# Altium schematic symbol library SCH-45852_C_Library.SchLib: 175 symbols
Pins are listed as number, name and electrical type; pins without a type are passive.

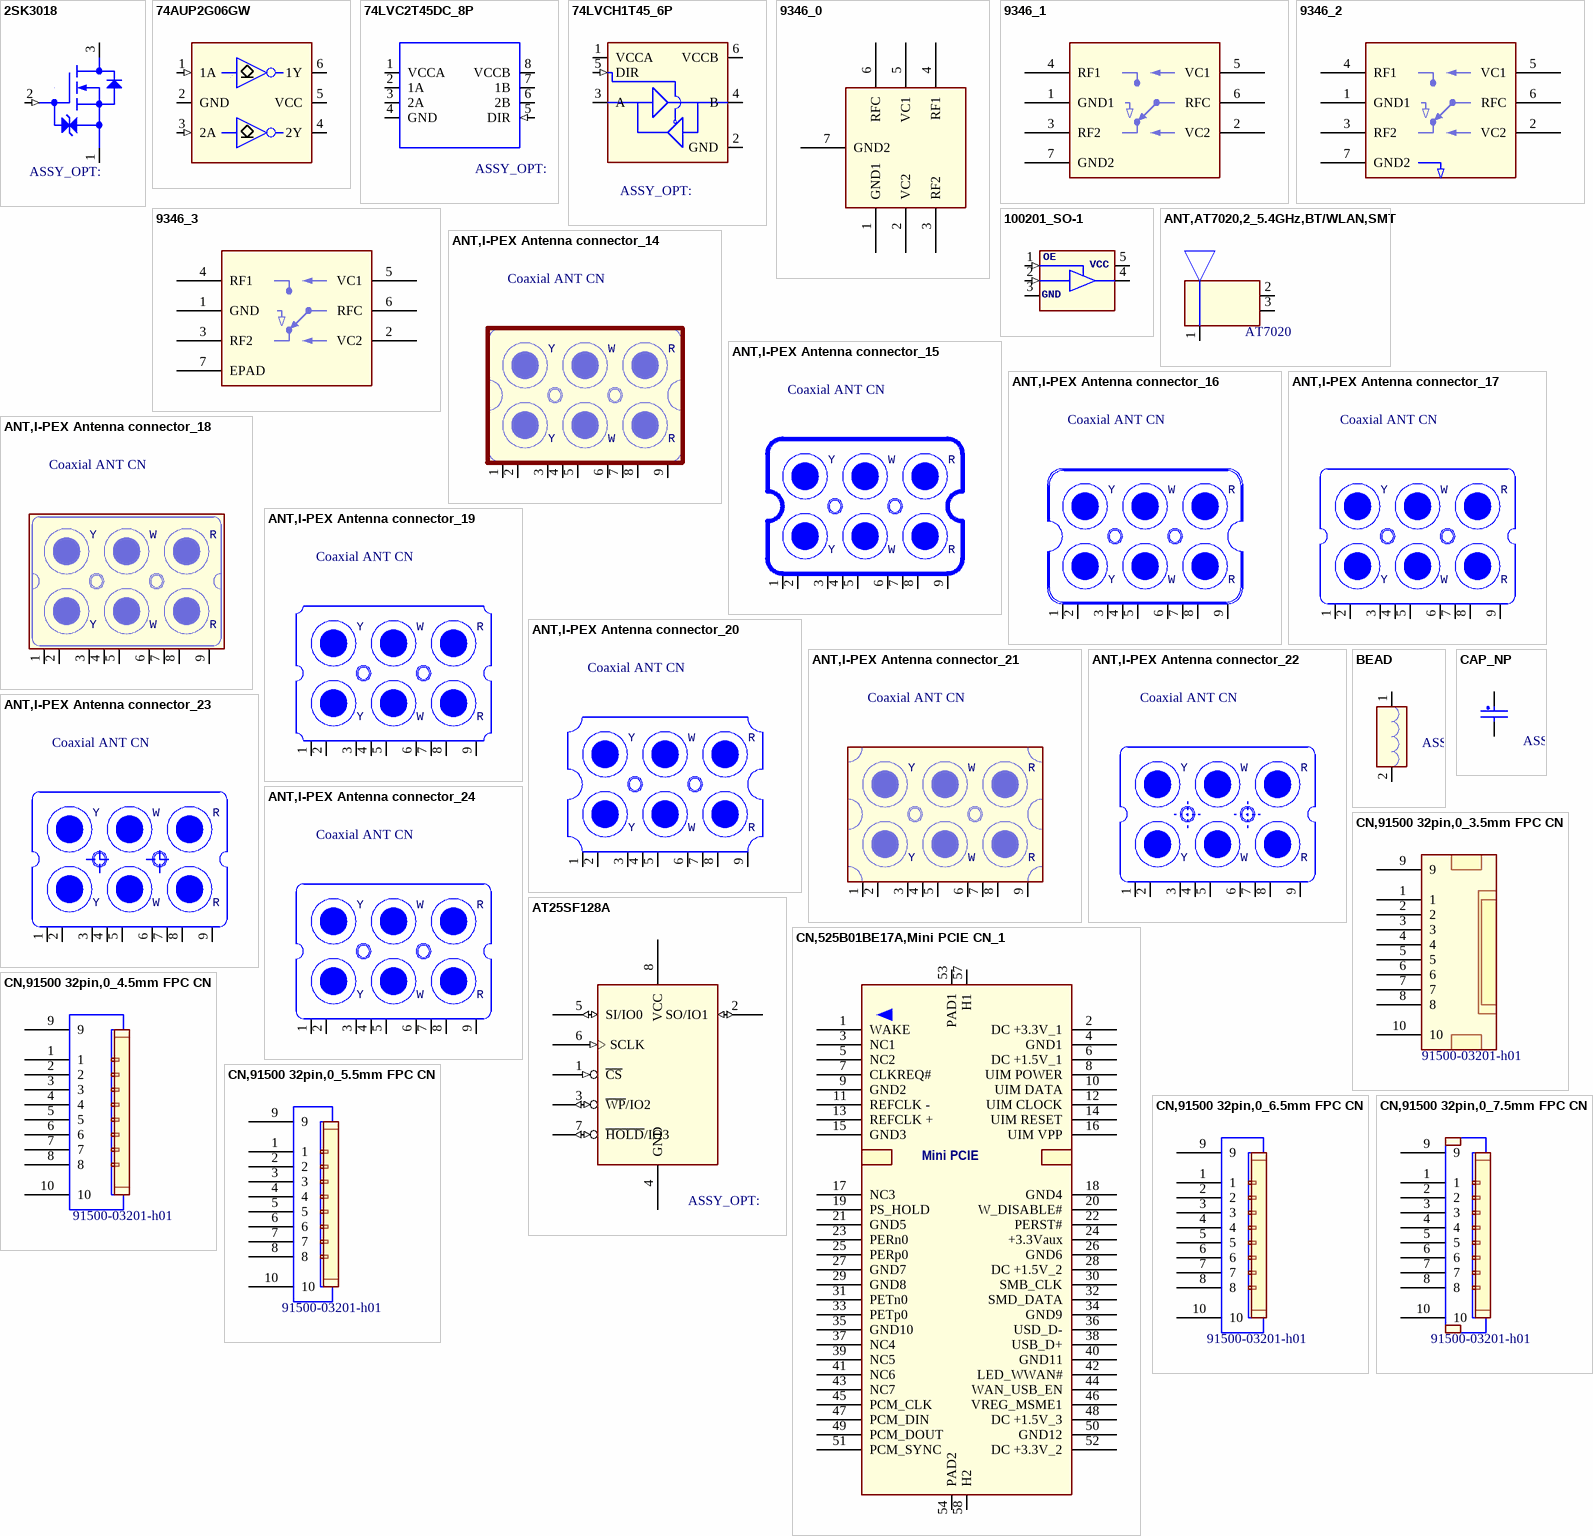
[diagram p0: symbols 2SK3018 to CN,91500 32pin,0_7.5mm FPC CN]

## 2SK3018
designator Q?
CLASS: IC
pins: 1 SOURCE, 2 GATE (in), 3 DRAIN

## 74AUP2G06GW
designator U?
CLASS: IC
footprint SOT363
pins: 1 1A (in), 2 GND (power), 3 2A (in), 4 2Y (oc), 5 VCC (power), 6 1Y (oc)

## 74LVC2T45DC_8P
designator U?
CLASS: IC
pins: 1 VCCA (power), 2 1A (io), 3 2A (io), 4 GND (power), 5 DIR (in), 6 2B (io), 7 1B (io), 8 VCCB (power)

## 74LVCH1T45_6P
designator U?
CLASS: IC
pins: 1 VCCA (power), 2 GND (power), 3 A (io), 4 B (io), 5 DIR (in), 6 VCCB (power)

## 9346_0
designator U?
pins: 1 GND1, 2 VC2, 3 RF2, 4 RF1, 5 VC1, 6 RFC, 7 GND2

## 9346_1
designator U?
pins: 1 GND1, 2 VC2, 3 RF2, 4 RF1, 5 VC1, 6 RFC, 7 GND2

## 9346_2
designator U?
pins: 1 GND1, 2 VC2, 3 RF2, 4 RF1, 5 VC1, 6 RFC, 7 GND2

## 9346_3
designator U?
pins: 1 GND, 2 VC2, 3 RF2, 4 RF1, 5 VC1, 6 RFC, 7 EPAD

## 100201_SO-1
designator U?
pins: 1 OE (in), 2 A (in), 3 GND (power), 4 Y (hiz), 5 VCC (power)

## ANT,AT7020,2_5.4GHz,BT/WLAN,SMT
designator A?, comment AT7020
ANT,AT7020,2.4GHz Multilayer Chip Antenna,BT/WLAN; VPN: AT7020-E3R0HBAT/CF; SPN: 99-26-130011; Vendor: ACX
footprint AT7020
pins: 1 FEED, 2 GND1, 3 GND2

## ANT,I-PEX Antenna connector_14
designator J?, comment Coaxial ANT CN
ANT,I-PEX Antenna connector; VPN: 20279-001 E-01; Vendor: I-PEX
footprint 20279-001
pins: 1, 2, 3, 4, 5, 6, 7, 8, 9
text: Y; W; R

## ANT,I-PEX Antenna connector_15
designator J?, comment Coaxial ANT CN
ANT,I-PEX Antenna connector; VPN: 20279-001 E-01; Vendor: I-PEX
footprint 20279-001
pins: 1, 2, 3, 4, 5, 6, 7, 8, 9
text: Y; W; R

## ANT,I-PEX Antenna connector_16
designator J?, comment Coaxial ANT CN
ANT,I-PEX Antenna connector; VPN: 20279-001 E-01; Vendor: I-PEX
footprint 20279-001
pins: 1, 2, 3, 4, 5, 6, 7, 8, 9
text: Y; W; R

## ANT,I-PEX Antenna connector_17
designator J?, comment Coaxial ANT CN
ANT,I-PEX Antenna connector; VPN: 20279-001 E-01; Vendor: I-PEX
footprint 20279-001
pins: 1, 2, 3, 4, 5, 6, 7, 8, 9
text: Y; W; R

## ANT,I-PEX Antenna connector_18
designator J?, comment Coaxial ANT CN
ANT,I-PEX Antenna connector; VPN: 20279-001 E-01; Vendor: I-PEX
footprint 20279-001
pins: 1, 2, 3, 4, 5, 6, 7, 8, 9
text: Y; W; R

## ANT,I-PEX Antenna connector_19
designator J?, comment Coaxial ANT CN
ANT,I-PEX Antenna connector; VPN: 20279-001 E-01; Vendor: I-PEX
footprint 20279-001
pins: 1, 2, 3, 4, 5, 6, 7, 8, 9
text: Y; W; R

## ANT,I-PEX Antenna connector_20
designator J?, comment Coaxial ANT CN
ANT,I-PEX Antenna connector; VPN: 20279-001 E-01; Vendor: I-PEX
footprint 20279-001
pins: 1, 2, 3, 4, 5, 6, 7, 8, 9
text: Y; W; R

## ANT,I-PEX Antenna connector_21
designator J?, comment Coaxial ANT CN
ANT,I-PEX Antenna connector; VPN: 20279-001 E-01; Vendor: I-PEX
footprint 20279-001
pins: 1, 2, 3, 4, 5, 6, 7, 8, 9
text: Y; W; R

## ANT,I-PEX Antenna connector_22
designator J?, comment Coaxial ANT CN
ANT,I-PEX Antenna connector; VPN: 20279-001 E-01; Vendor: I-PEX
footprint 20279-001
pins: 1, 2, 3, 4, 5, 6, 7, 8, 9
text: Y; W; R

## ANT,I-PEX Antenna connector_23
designator J?, comment Coaxial ANT CN
ANT,I-PEX Antenna connector; VPN: 20279-001 E-01; Vendor: I-PEX
footprint 20279-001
pins: 1, 2, 3, 4, 5, 6, 7, 8, 9
text: Y; W; R

## ANT,I-PEX Antenna connector_24
designator J?, comment Coaxial ANT CN
ANT,I-PEX Antenna connector; VPN: 20279-001 E-01; Vendor: I-PEX
footprint 20279-001
pins: 1, 2, 3, 4, 5, 6, 7, 8, 9
text: Y; W; R

## AT25SF128A
designator U?
CLASS: IC
pins: 1 ~{CS} (in), 2 SO/IO1 (io), 3 ~{WP}/IO2 (io), 4 GND (power), 5 SI/IO0 (io), 6 SCLK (in), 7 ~{HOLD}/IO3 (io), 8 VCC (power)

## BEAD
designator L?
CLASS: DISCRETE
pins: 1, 2

## CAP_NP
designator C?
CLASS: DISCRETE
pins: 1, 2

## CN,525B01BE17A,Mini PCIE CN_1
designator J?, comment Mini PCIE
CN,525B01BE17A,Mini PCIE,0.8mm Pitch,52Pin; Vendor: Concraft; VPN: 525B01BE17A
footprint 525B01BE17A
pins: 1 WAKE, 2 DC +3.3V_1, 3 NC1, 4 GND1, 5 NC2, 6 DC +1.5V_1, 7 CLKREQ#, 8 UIM POWER, 9 GND2, 10 UIM DATA, 11 REFCLK -, 12 UIM CLOCK, 13 REFCLK +, 14 UIM RESET, 15 GND3, 16 UIM VPP, 17 NC3, 18 GND4, 19 PS_HOLD, 20 W_DISABLE#, 21 GND5, 22 PERST#, 23 PERn0, 24 +3.3Vaux, 25 PERp0, 26 GND6, 27 GND7, 28 DC +1.5V_2, 29 GND8, 30 SMB_CLK, 31 PETn0, 32 SMD_DATA, 33 PETp0, 34 GND9, 35 GND10, 36 USD_D-, 37 NC4, 38 USB_D+, 39 NC5, 40 GND11, 41 NC6, 42 LED_WWAN#, 43 NC7, 44 WAN_USB_EN, 45 PCM_CLK, 46 VREG_MSME1, 47 PCM_DIN, 48 DC +1.5V_3, 49 PCM_DOUT, 50 GND12, 51 PCM_SYNC, 52 DC +3.3V_2, 53 PAD1, 54 PAD2, 57 H1, 58 H2

## CN,91500 32pin,0_3.5mm FPC CN
designator J?, comment 91500-03201-h01
CN,91500,0.5mm/32Pin FPC/FFC,; Vendor: Aces; VPN: 91500-03201-h01
footprint con32_0p5_91500-03201-h01
pins: 1, 2, 3, 4, 5, 6, 7, 8, 9, 10

## CN,91500 32pin,0_4.5mm FPC CN
designator J?, comment 91500-03201-h01
CN,91500,0.5mm/32Pin FPC/FFC,; Vendor: Aces; VPN: 91500-03201-h01
footprint con32_0p5_91500-03201-h01
pins: 1, 2, 3, 4, 5, 6, 7, 8, 9, 10

## CN,91500 32pin,0_5.5mm FPC CN
designator J?, comment 91500-03201-h01
CN,91500,0.5mm/32Pin FPC/FFC,; Vendor: Aces; VPN: 91500-03201-h01
footprint con32_0p5_91500-03201-h01
pins: 1, 2, 3, 4, 5, 6, 7, 8, 9, 10

## CN,91500 32pin,0_6.5mm FPC CN
designator J?, comment 91500-03201-h01
CN,91500,0.5mm/32Pin FPC/FFC,; Vendor: Aces; VPN: 91500-03201-h01
footprint con32_0p5_91500-03201-h01
pins: 1, 2, 3, 4, 5, 6, 7, 8, 9, 10

## CN,91500 32pin,0_7.5mm FPC CN
designator J?, comment 91500-03201-h01
CN,91500,0.5mm/32Pin FPC/FFC,; Vendor: Aces; VPN: 91500-03201-h01
footprint con32_0p5_91500-03201-h01
pins: 1, 2, 3, 4, 5, 6, 7, 8, 9, 10

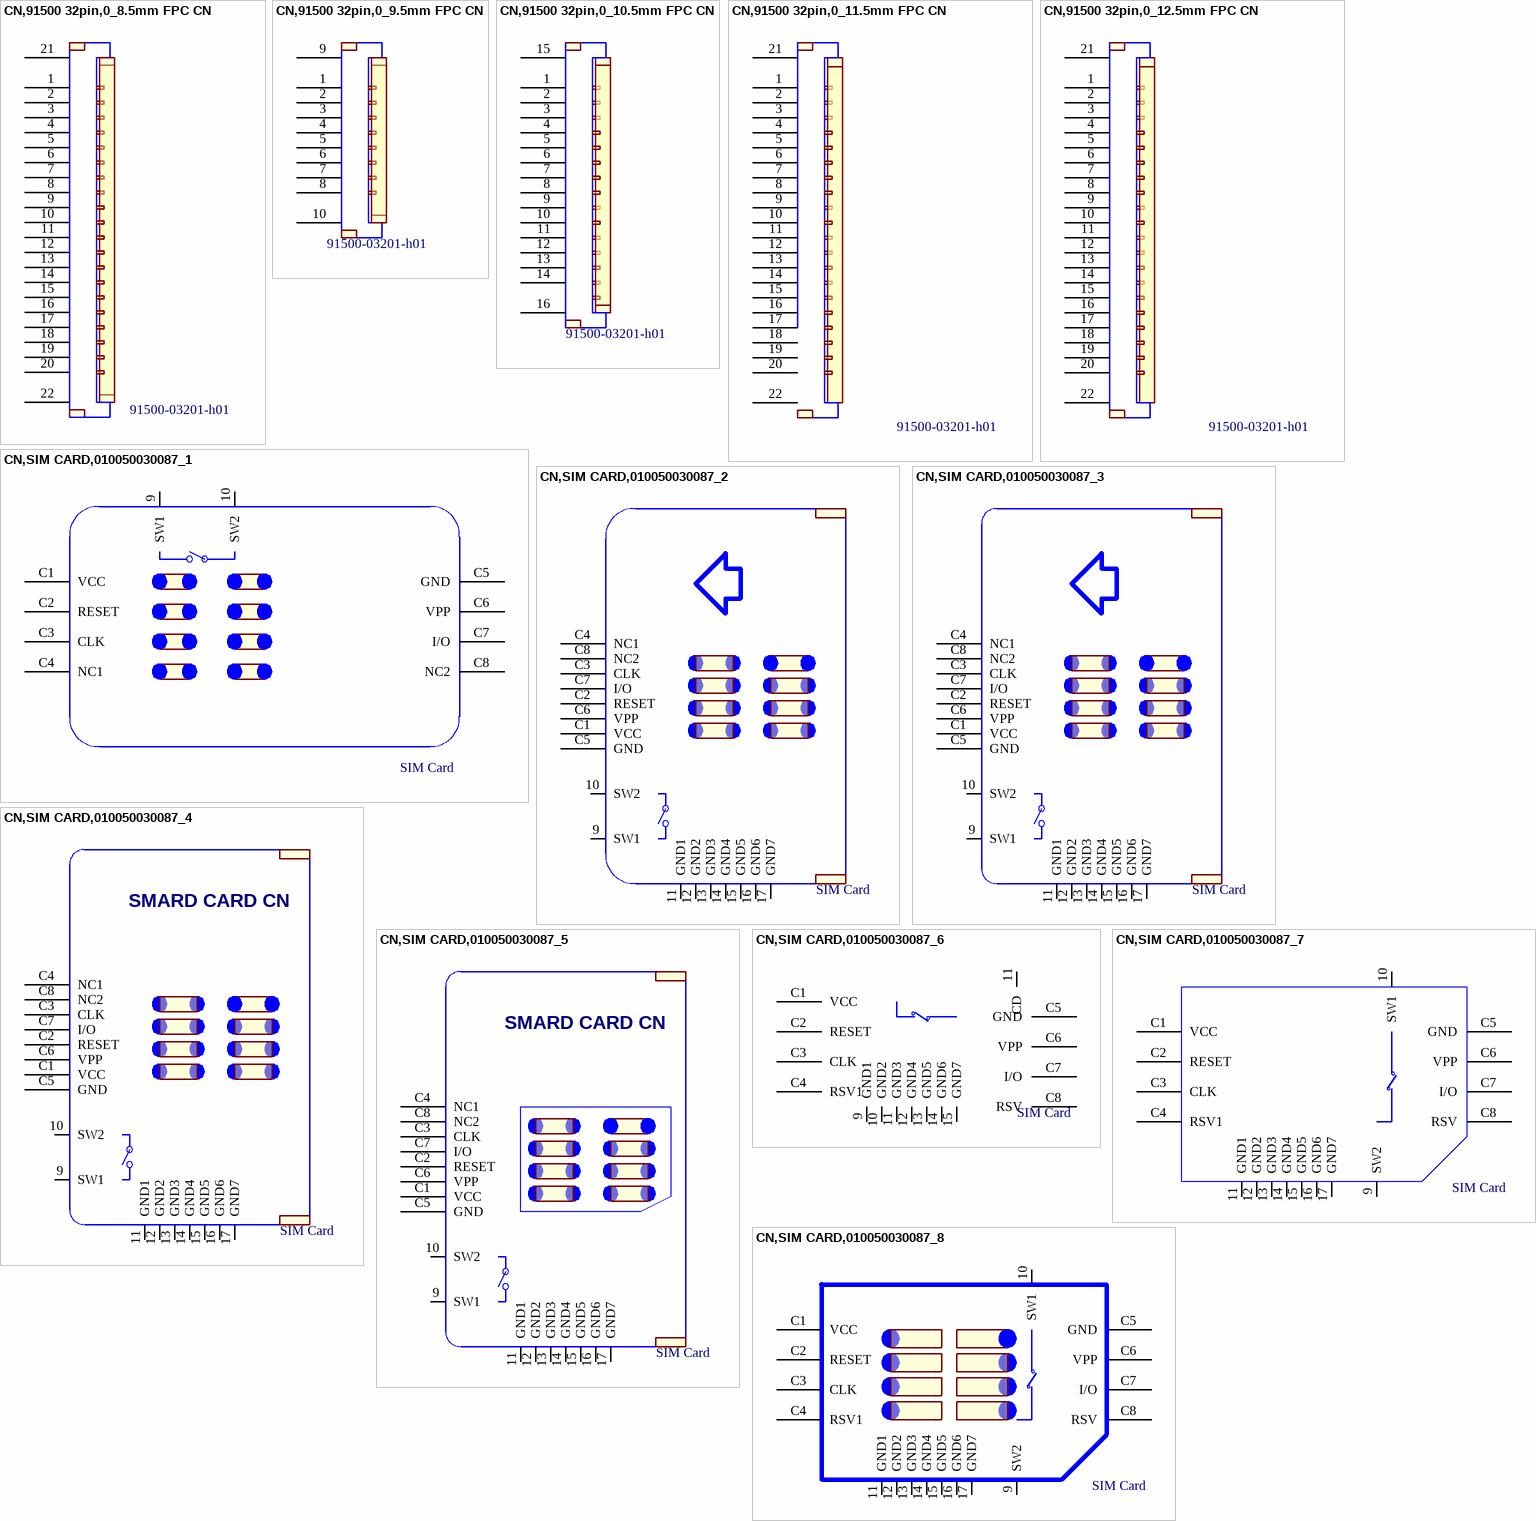
[diagram p1: symbols CN,91500 32pin,0_8.5mm FPC CN to CN,SIM CARD,010050030087_8]

## CN,91500 32pin,0_8.5mm FPC CN
designator J?, comment 91500-03201-h01
CN,91500,0.5mm/32Pin FPC/FFC,; Vendor: Aces; VPN: 91500-03201-h01
footprint con32_0p5_91500-03201-h01
pins: 1, 2, 3, 4, 5, 6, 7, 8, 9, 10, 11, 12, 13, 14, 15, 16, 17, 18, 19, 20, 21, 22

## CN,91500 32pin,0_9.5mm FPC CN
designator J?, comment 91500-03201-h01
CN,91500,0.5mm/32Pin FPC/FFC,; Vendor: Aces; VPN: 91500-03201-h01
footprint con32_0p5_91500-03201-h01
pins: 1, 2, 3, 4, 5, 6, 7, 8, 9, 10

## CN,91500 32pin,0_10.5mm FPC CN
designator J?, comment 91500-03201-h01
CN,91500,0.5mm/32Pin FPC/FFC,; Vendor: Aces; VPN: 91500-03201-h01
footprint con32_0p5_91500-03201-h01
pins: 1, 2, 3, 4, 5, 6, 7, 8, 9, 10, 11, 12, 13, 14, 15 M1, 16 M2

## CN,91500 32pin,0_11.5mm FPC CN
designator J?, comment 91500-03201-h01
CN,91500,0.5mm/32Pin FPC/FFC,; Vendor: Aces; VPN: 91500-03201-h01
footprint con32_0p5_91500-03201-h01
pins: 1, 2, 3, 4, 5, 6, 7, 8, 9, 10, 11, 12, 13, 14, 15 M1, 16 M2, 17, 18, 19, 20, 21, 22

## CN,91500 32pin,0_12.5mm FPC CN
designator J?, comment 91500-03201-h01
CN,91500,0.5mm/32Pin FPC/FFC,; Vendor: Aces; VPN: 91500-03201-h01
footprint con32_0p5_91500-03201-h01
pins: 1, 2, 3, 4, 5, 6, 7, 8, 9, 10, 11, 12, 13, 14, 15 M1, 16 M2, 17, 18, 19, 20, 21, 22

## CN,SIM CARD,010050030087_1
designator J?, comment SIM Card
CN,SIM CARD,010050030087,Sim Card Socket 6Pin With DET; VPN: 010050030087
footprint 010050030087
pins: 9 SW1, 10 SW2, C1 VCC, C2 RESET, C3 CLK, C4 NC1, C5 GND, C6 VPP, C7 I/O, C8 NC2

## CN,SIM CARD,010050030087_2
designator J?, comment SIM Card
CN,SIM CARD,010050030087,Sim Card Socket 6Pin With DET; VPN: 010050030087
footprint 010050030087
pins: 9 SW1, 10 SW2, 11 GND1, 12 GND2, 13 GND3, 14 GND4, 15 GND5, 16 GND6, 17 GND7, C1 VCC, C2 RESET, C3 CLK, C4 NC1, C5 GND, C6 VPP, C7 I/O, C8 NC2

## CN,SIM CARD,010050030087_3
designator J?, comment SIM Card
CN,SIM CARD,010050030087,Sim Card Socket 6Pin With DET; VPN: 010050030087
footprint 010050030087
pins: 9 SW1, 10 SW2, 11 GND1, 12 GND2, 13 GND3, 14 GND4, 15 GND5, 16 GND6, 17 GND7, C1 VCC, C2 RESET, C3 CLK, C4 NC1, C5 GND, C6 VPP, C7 I/O, C8 NC2

## CN,SIM CARD,010050030087_4
designator J?, comment SIM Card
CN,SIM CARD,010050030087,Sim Card Socket 6Pin With DET; VPN: 010050030087
footprint 010050030087
pins: 9 SW1, 10 SW2, 11 GND1, 12 GND2, 13 GND3, 14 GND4, 15 GND5, 16 GND6, 17 GND7, C1 VCC, C2 RESET, C3 CLK, C4 NC1, C5 GND, C6 VPP, C7 I/O, C8 NC2
text: SMARD CARD CN

## CN,SIM CARD,010050030087_5
designator J?, comment SIM Card
CN,SIM CARD,010050030087,Sim Card Socket 6Pin With DET; VPN: 010050030087
footprint 010050030087
pins: 9 SW1, 10 SW2, 11 GND1, 12 GND2, 13 GND3, 14 GND4, 15 GND5, 16 GND6, 17 GND7, C1 VCC, C2 RESET, C3 CLK, C4 NC1, C5 GND, C6 VPP, C7 I/O, C8 NC2
text: SMARD CARD CN

## CN,SIM CARD,010050030087_6
designator J?, comment SIM Card
CN,SIM CARD,010050030087,Sim Card Socket 6Pin With DET; VPN: 010050030087
footprint 010050030087
pins: 9 GND1, 10 GND2, 11 CD, 11 GND3, 12 GND4, 13 GND5, 14 GND6, 15 GND7, C1 VCC, C2 RESET, C3 CLK, C4 RSV1, C5 GND, C6 VPP, C7 I/O, C8 RSV

## CN,SIM CARD,010050030087_7
designator J?, comment SIM Card
CN,SIM CARD,010050030087,Sim Card Socket 6Pin With DET; VPN: 010050030087
footprint 010050030087
pins: 9 SW2, 10 SW1, 11 GND1, 12 GND2, 13 GND3, 14 GND4, 15 GND5, 16 GND6, 17 GND7, C1 VCC, C2 RESET, C3 CLK, C4 RSV1, C5 GND, C6 VPP, C7 I/O, C8 RSV

## CN,SIM CARD,010050030087_8
designator J?, comment SIM Card
CN,SIM CARD,010050030087,Sim Card Socket 6Pin With DET; VPN: 010050030087
footprint 010050030087
pins: 9 SW2, 10 SW1, 11 GND1, 12 GND2, 13 GND3, 14 GND4, 15 GND5, 16 GND6, 17 GND7, C1 VCC, C2 RESET, C3 CLK, C4 RSV1, C5 GND, C6 VPP, C7 I/O, C8 RSV

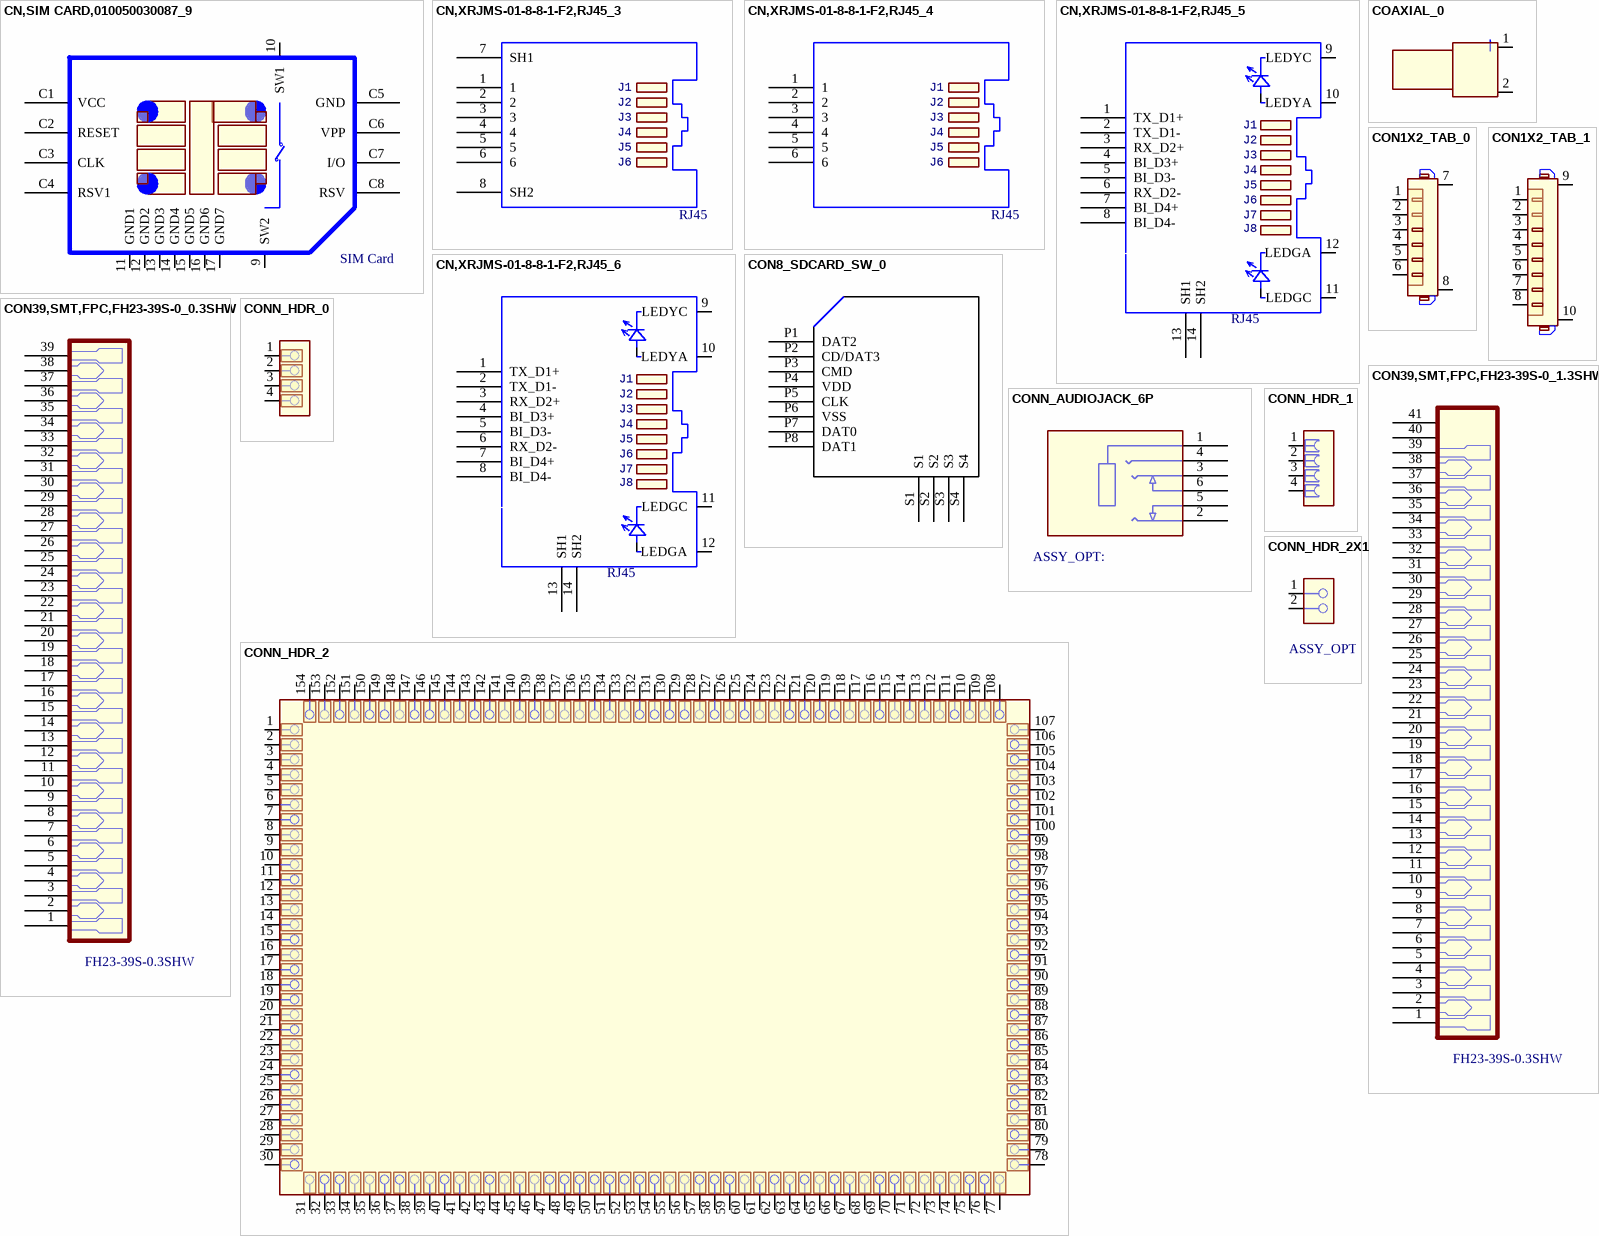
[diagram p2: symbols CN,SIM CARD,010050030087_9 to CONN_HDR_2X1]

## CN,SIM CARD,010050030087_9
designator J?, comment SIM Card
CN,SIM CARD,010050030087,Sim Card Socket 6Pin With DET; VPN: 010050030087
footprint 010050030087
pins: 9 SW2, 10 SW1, 11 GND1, 12 GND2, 13 GND3, 14 GND4, 15 GND5, 16 GND6, 17 GND7, C1 VCC, C2 RESET, C3 CLK, C4 RSV1, C5 GND, C6 VPP, C7 I/O, C8 RSV

## CN,XRJMS-01-8-8-1-F2,RJ45_3
designator J?, comment RJ45
CN,XRJMS-01-8-8-1-F2,RJ45 with Green/Yellow LED; Vendor: XMULTIPLE; CLASS: IO; VPN: XRJMS-01-8-8-1-F2
footprint XRJMS-01-8-8-1-F2
pins: 1, 2, 3, 4, 5, 6, 7 SH1, 8 SH2
text: J1; J2; J3; J4; J5; J6

## CN,XRJMS-01-8-8-1-F2,RJ45_4
designator J?, comment RJ45
CN,XRJMS-01-8-8-1-F2,RJ45 with Green/Yellow LED; Vendor: XMULTIPLE; CLASS: IO; VPN: XRJMS-01-8-8-1-F2
footprint XRJMS-01-8-8-1-F2
pins: 1, 2, 3, 4, 5, 6
text: J1; J2; J3; J4; J5; J6

## CN,XRJMS-01-8-8-1-F2,RJ45_5
designator J?, comment RJ45
CN,XRJMS-01-8-8-1-F2,RJ45 with Green/Yellow LED; Vendor: XMULTIPLE; CLASS: IO; VPN: XRJMS-01-8-8-1-F2
footprint XRJMS-01-8-8-1-F2
pins: 1 TX_D1+, 2 TX_D1-, 3 RX_D2+, 4 BI_D3+, 5 BI_D3-, 6 RX_D2-, 7 BI_D4+, 8 BI_D4-, 9 LEDYC, 10 LEDYA, 11 LEDGC, 12 LEDGA, 13 SH1, 14 SH2
text: J1; J2; J3; J4; J5; J6; J7; J8

## CN,XRJMS-01-8-8-1-F2,RJ45_6
designator J?, comment RJ45
CN,XRJMS-01-8-8-1-F2,RJ45 with Green/Yellow LED; Vendor: XMULTIPLE; CLASS: IO; VPN: XRJMS-01-8-8-1-F2
footprint XRJMS-01-8-8-1-F2
pins: 1 TX_D1+, 2 TX_D1-, 3 RX_D2+, 4 BI_D3+, 5 BI_D3-, 6 RX_D2-, 7 BI_D4+, 8 BI_D4-, 9 LEDYC, 10 LEDYA, 11 LEDGC, 12 LEDGA, 13 SH1, 14 SH2
text: J1; J2; J3; J4; J5; J6; J7; J8

## COAXIAL_0
designator J?
pins: 1 IN, 2 GND (power)

## CON1X2_TAB_0
designator J?
CLASS: IO
footprint W12503-S160501A
pins: 1, 2, 3, 4, 5, 6, 7, 8

## CON1X2_TAB_1
designator J?
CLASS: IO
footprint W12503-S160501A
pins: 1, 2, 3, 4, 5, 6, 7, 8, 9, 10

## CON8_SDCARD_SW_0
designator J?
CLASS: IO
pins: P1 DAT2, P2 CD/DAT3, P3 CMD, P4 VDD (power), P5 CLK, P6 VSS (power), P7 DAT0, P8 DAT1, S1, S2, S3, S4

## CON39,SMT,FPC,FH23-39S-0_0.3SHW
designator J?, comment FH23-39S-0.3SHW
CON39,FH23-39S-0.3SHW,0.3mm/39Pin FPC,Bottom contact; SPN: 99X30-210011; Vendor: Hirose; VPN: FH23-39S-0.3SHW
footprint FH23-39SH
pins: 1, 2, 3, 4, 5, 6, 7, 8, 9, 10, 11, 12, 13, 14, 15, 16, 17, 18, 19, 20, 21, 22, 23, 24, 25, 26, 27, 28, 29, 30, 31, 32, 33, 34, 35, 36, 37, 38, 39

## CON39,SMT,FPC,FH23-39S-0_1.3SHW
designator J?, comment FH23-39S-0.3SHW
CON39,FH23-39S-0.3SHW,0.3mm/39Pin FPC,Bottom contact; Vendor: Hirose; SPN: 99X30-210011; VPN: FH23-39S-0.3SHW
footprint FH23-39SH
pins: 1, 2, 3, 4, 5, 6, 7, 8, 9, 10, 11, 12, 13, 14, 15, 16, 17, 18, 19, 20, 21, 22, 23, 24, 25, 26, 27, 28, 29, 30, 31, 32, 33, 34, 35, 36, 37, 38, 39, 40, 41

## CONN_AUDIOJACK_6P
designator J?
CLASS: IO
pins: 1, 2, 3, 4, 5, 6

## CONN_HDR_0
designator J?
CLASS: IO
pins: 1, 2, 3, 4

## CONN_HDR_1
designator J?
CLASS: IO
pins: 1, 2, 3, 4

## CONN_HDR_2
designator J?
CLASS: IO
pins: 1, 2, 3, 4, 5, 6, 7, 8, 9, 10, 11, 12, 13, 14, 15, 16, 17, 18, 19, 20, 21, 22, 23, 24, 25, 26, 27, 28, 29, 30, 31, 32, 33, 34, 35, 36, 37, 38, 39, 40, 41, 42, 43, 44, 45, 46, 47, 48, 49, 50, 51, 52, 53, 54, 55, 56, 57, 58, 59, 60, 61, 62, 63, 64, 65, 66, 67, 68, 69, 70, 71, 72, 73, 74, 75, 76, 77, 78, 79, 80, 81, 82, 83, 84, 85, 86, 87, 88, 89, 90, 91, 92, 93, 94, 95, 96, 97, 98, 99, 100, 101, 102, 103, 104, 105, 106, 107, 108, 109, 110, 111, 112, 113, 114, 115, 116, 117, 118, 119, 120, 121, 122, 123, 124, 125, 126, 127, 128, 129, 130, 131, 132, 133, 134, 135, 136, 137, 138, 139, 140, 141, 142, 143, 144, 145, 146, 147, 148, 149, 150, 151, 152, 153, 154

## CONN_HDR_2X1
designator J?
CLASS: IO
pins: 1, 2

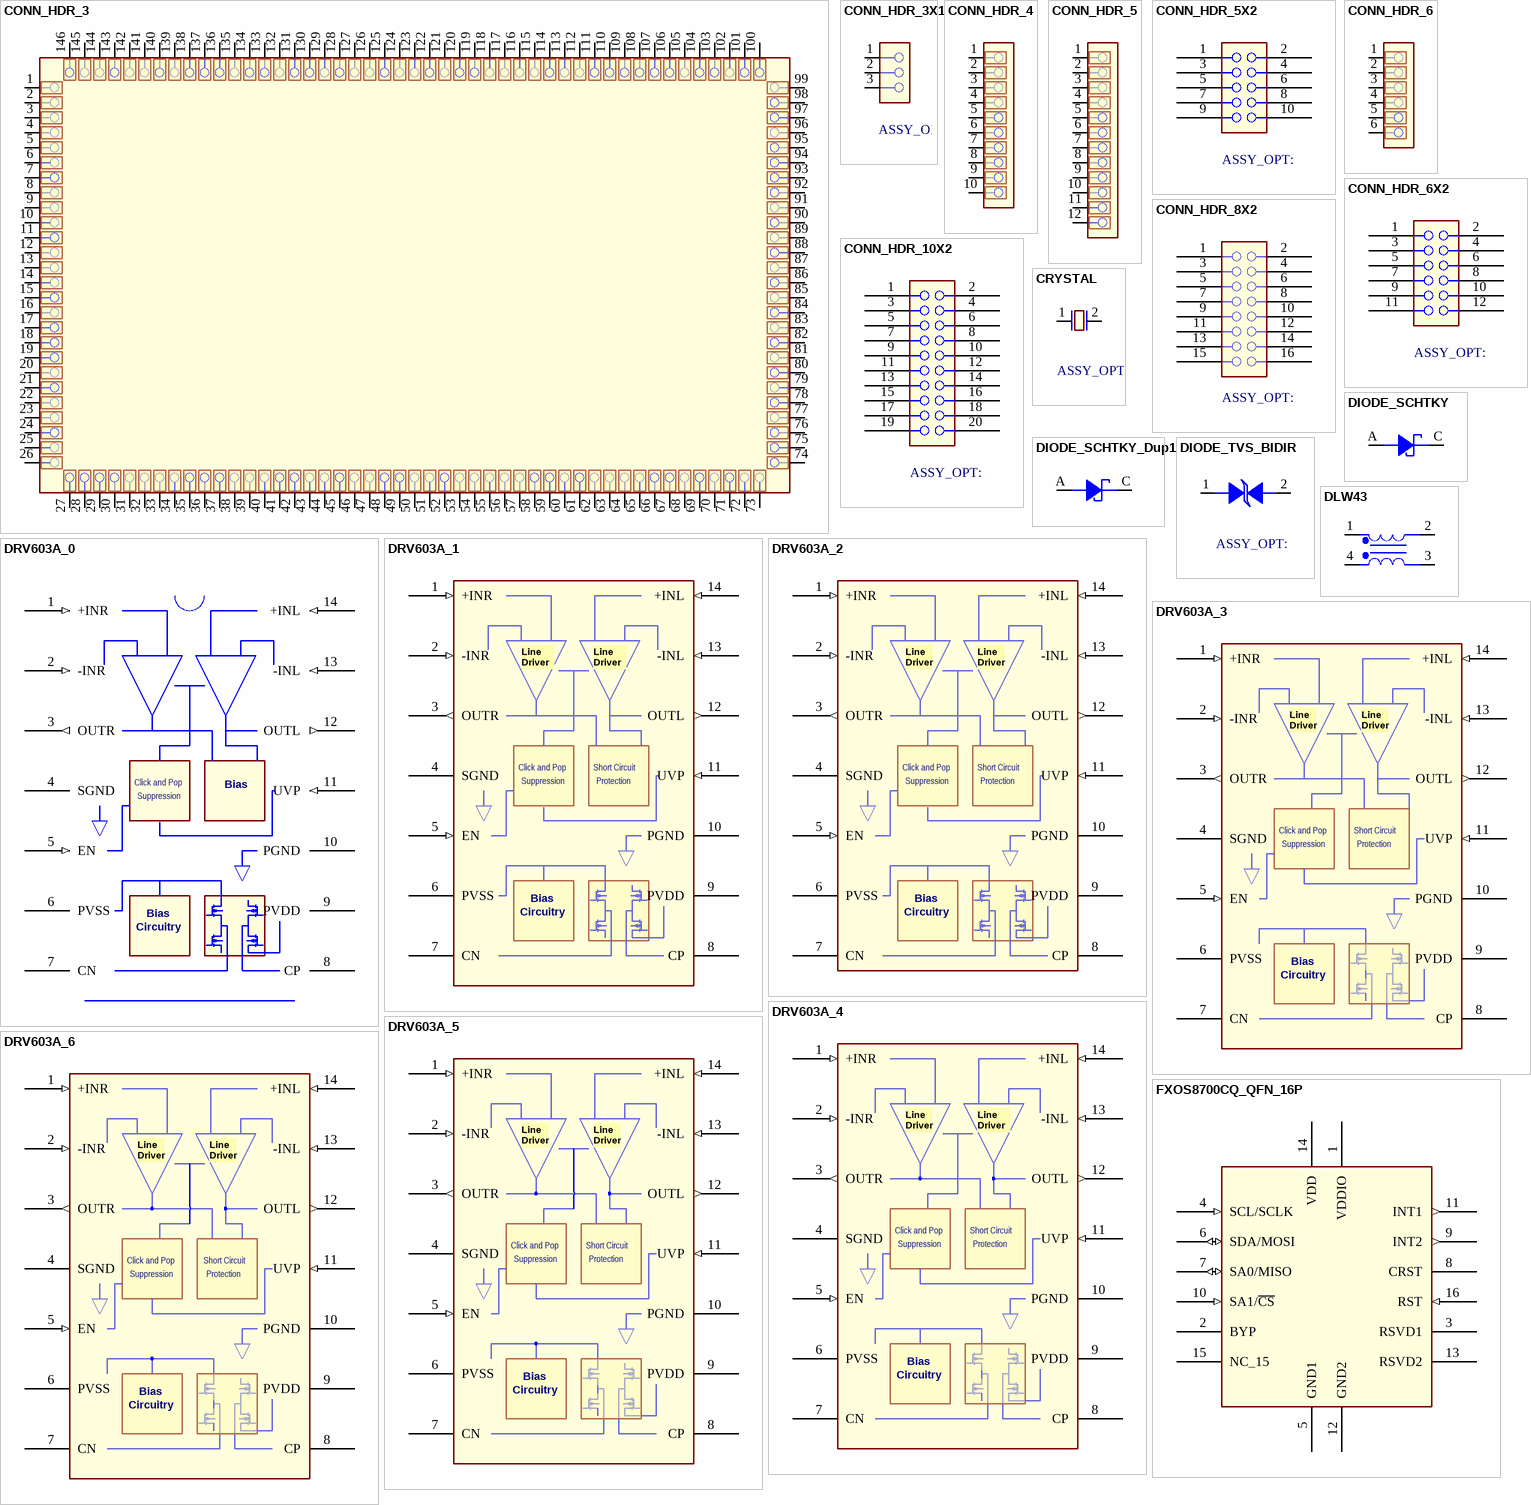
[diagram p3: symbols CONN_HDR_3 to FXOS8700CQ_QFN_16P]

## CONN_HDR_3
designator J?
CLASS: IO
pins: 1, 2, 3, 4, 5, 6, 7, 8, 9, 10, 11, 12, 13, 14, 15, 16, 17, 18, 19, 20, 21, 22, 23, 24, 25, 26, 27, 28, 29, 30, 31, 32, 33, 34, 35, 36, 37, 38, 39, 40, 41, 42, 43, 44, 45, 46, 47, 48, 49, 50, 51, 52, 53, 54, 55, 56, 57, 58, 59, 60, 61, 62, 63, 64, 65, 66, 67, 68, 69, 70, 71, 72, 73, 74, 75, 76, 77, 78, 79, 80, 81, 82, 83, 84, 85, 86, 87, 88, 89, 90, 91, 92, 93, 94, 95, 96, 97, 98, 99, 100, 101, 102, 103, 104, 105, 106, 107, 108, 109, 110, 111, 112, 113, 114, 115, 116, 117, 118, 119, 120, 121, 122, 123, 124, 125, 126, 127, 128, 129, 130, 131, 132, 133, 134, 135, 136, 137, 138, 139, 140, 141, 142, 143, 144, 145, 146

## CONN_HDR_3X1
designator J?
CLASS: IO
pins: 1, 2, 3

## CONN_HDR_4
designator J?
CLASS: IO
pins: 1, 2, 3, 4, 5, 6, 7, 8, 9, 10

## CONN_HDR_5
designator J?
CLASS: IO
pins: 1, 2, 3, 4, 5, 6, 7, 8, 9, 10, 11, 12

## CONN_HDR_5X2
designator J?
CLASS: IO
pins: 1 A1, 2 B1, 3 A2, 4 B2, 5 A3, 6 B3, 7 A4, 8 B4, 9 A5, 10 B5

## CONN_HDR_6
designator J?
CLASS: IO
pins: 1, 2, 3, 4, 5, 6

## CONN_HDR_6X2
designator J?
CLASS: IO
pins: 1 A1, 2 B1, 3 A2, 4 B2, 5 A3, 6 B3, 7 A4, 8 B4, 9 A5, 10 B5, 11 A6, 12 B6

## CONN_HDR_8X2
designator J?
CLASS: IO
pins: 1 A1, 2 B1, 3 A2, 4 B2, 5 A3, 6 B3, 7 A4, 8 B4, 9 A5, 10 B5, 11 A6, 12 B6, 13 A7, 14 B7, 15 A8, 16 B8

## CONN_HDR_10X2
designator J?
CLASS: IO
pins: 1, 2, 3, 4, 5, 6, 7, 8, 9, 10, 11, 12, 13, 14, 15, 16, 17, 18, 19, 20

## CRYSTAL
designator QZ?
CLASS: IC
pins: 1, 2

## DIODE_SCHTKY
designator D?
CLASS: IC
pins: A, C

## DIODE_SCHTKY_Dup1
designator D?
CLASS: IC
pins: A, C

## DIODE_TVS_BIDIR
designator D?
CLASS: IC
pins: 1 A1, 2 A2

## DLW43
designator L?
CLASS: DISCRETE
pins: 1, 2, 3, 4

## DRV603A_0
designator U?
pins: 1 +INR (in), 2 -INR (in), 3 OUTR (out), 4 SGND (power), 5 EN (in), 6 PVSS (power), 7 CN, 8 CP, 9 PVDD (power), 10 PGND (power), 11 UVP (in), 12 OUTL (out), 13 -INL (in), 14 +INL (in)
text: Click and Pop; Bias; Suppression; Circuitry

## DRV603A_1
designator U?
pins: 1 +INR (in), 2 -INR (in), 3 OUTR (out), 4 SGND (power), 5 EN (in), 6 PVSS (power), 7 CN, 8 CP, 9 PVDD (power), 10 PGND (power), 11 UVP (in), 12 OUTL (out), 13 -INL (in), 14 +INL (in)
text: Line / Driver; Click and Pop; Short Circuit; Suppression; Protection; Bias; Circuitry

## DRV603A_2
designator U?
pins: 1 +INR (in), 2 -INR (in), 3 OUTR (out), 4 SGND (power), 5 EN (in), 6 PVSS (power), 7 CN, 8 CP, 9 PVDD (power), 10 PGND (power), 11 UVP (in), 12 OUTL (out), 13 -INL (in), 14 +INL (in)
text: Line / Driver; Click and Pop; Short Circuit; Suppression; Protection; Bias; Circuitry

## DRV603A_3
designator U?
pins: 1 +INR (in), 2 -INR (in), 3 OUTR (out), 4 SGND (power), 5 EN (in), 6 PVSS (power), 7 CN, 8 CP, 9 PVDD (power), 10 PGND (power), 11 UVP (in), 12 OUTL (out), 13 -INL (in), 14 +INL (in)
text: Line / Driver; Click and Pop; Short Circuit; Suppression; Protection; Bias; Circuitry

## DRV603A_4
designator U?
pins: 1 +INR (in), 2 -INR (in), 3 OUTR (out), 4 SGND (power), 5 EN (in), 6 PVSS (power), 7 CN, 8 CP, 9 PVDD (power), 10 PGND (power), 11 UVP (in), 12 OUTL (out), 13 -INL (in), 14 +INL (in)
text: Line / Driver; Click and Pop; Short Circuit; Suppression; Protection; Bias; Circuitry

## DRV603A_5
designator U?
pins: 1 +INR (in), 2 -INR (in), 3 OUTR (out), 4 SGND (power), 5 EN (in), 6 PVSS (power), 7 CN, 8 CP, 9 PVDD (power), 10 PGND (power), 11 UVP (in), 12 OUTL (out), 13 -INL (in), 14 +INL (in)
text: Line / Driver; Click and Pop; Short Circuit; Suppression; Protection; Bias; Circuitry

## DRV603A_6
designator U?
pins: 1 +INR (in), 2 -INR (in), 3 OUTR (out), 4 SGND (power), 5 EN (in), 6 PVSS (power), 7 CN, 8 CP, 9 PVDD (power), 10 PGND (power), 11 UVP (in), 12 OUTL (out), 13 -INL (in), 14 +INL (in)
text: Line / Driver; Click and Pop; Short Circuit; Suppression; Protection; Bias; Circuitry

## FXOS8700CQ_QFN_16P
designator U?
CLASS: IC
pins: 1 VDDIO (power), 2 BYP, 3 RSVD1, 4 SCL/SCLK (in), 5 GND1 (power), 6 SDA/MOSI (io), 7 SA0/MISO (io), 8 CRST, 9 INT2 (out), 10 SA1/~{CS} (in), 11 INT1 (out), 12 GND2 (power), 13 RSVD2, 14 VDD (power), 15 NC_15, 16 RST (in)

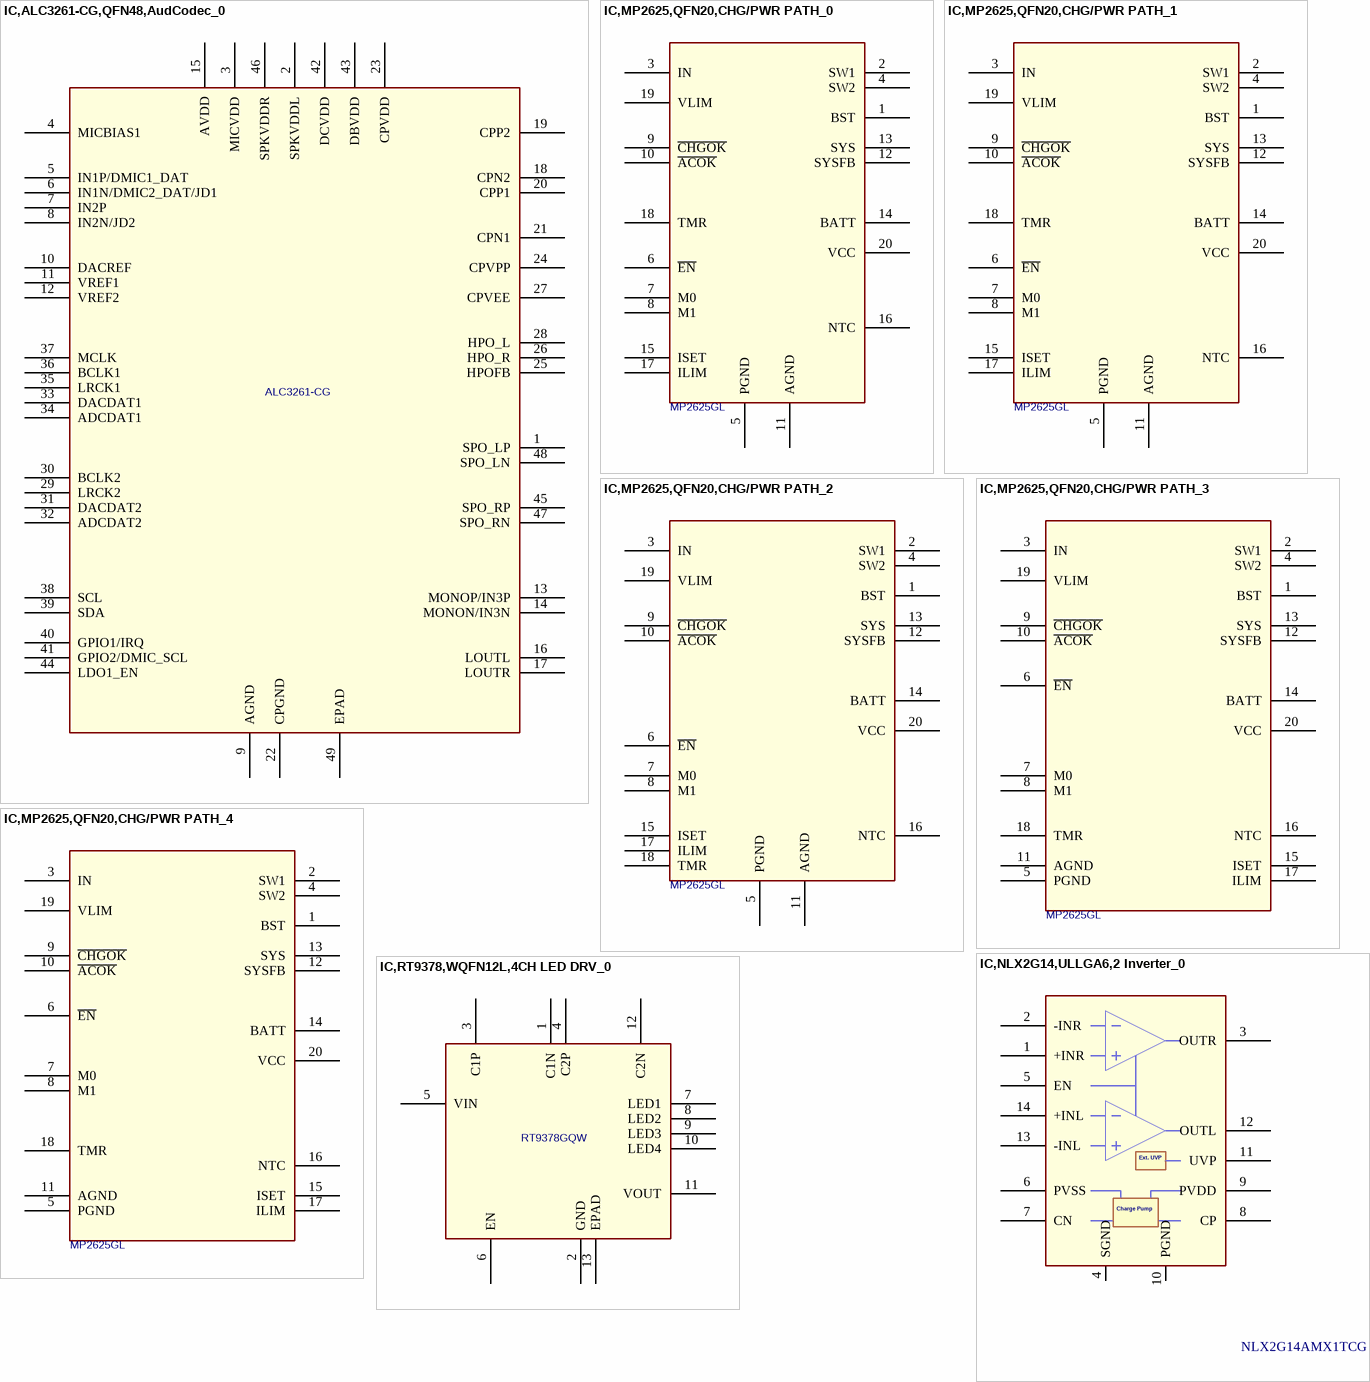
[diagram p4: symbols IC,ALC3261-CG,QFN48,AudCodec_0 to IC,RT9378,WQFN12L,4CH LED DRV_0]

## IC,ALC3261-CG,QFN48,AudCodec_0
designator U?, comment ALC3261-CG
Vendor: Realtek; VPN: ALC3261-CG
footprint QFN48
pins: 1 SPO_LP, 2 SPKVDDL, 3 MICVDD, 4 MICBIAS1, 5 IN1P/DMIC1_DAT, 6 IN1N/DMIC2_DAT/JD1, 7 IN2P, 8 IN2N/JD2, 9 AGND, 10 DACREF, 11 VREF1, 12 VREF2, 13 MONOP/IN3P, 14 MONON/IN3N, 15 AVDD, 16 LOUTL, 17 LOUTR, 18 CPN2, 19 CPP2, 20 CPP1, 21 CPN1, 22 CPGND, 23 CPVDD, 24 CPVPP, 25 HPOFB, 26 HPO_R, 27 CPVEE, 28 HPO_L, 29 LRCK2, 30 BCLK2, 31 DACDAT2, 32 ADCDAT2, 33 DACDAT1, 34 ADCDAT1, 35 LRCK1, 36 BCLK1, 37 MCLK, 38 SCL, 39 SDA, 40 GPIO1/IRQ, 41 GPIO2/DMIC_SCL, 42 DCVDD, 43 DBVDD, 44 LDO1_EN, 45 SPO_RP, 46 SPKVDDR, 47 SPO_RN, 48 SPO_LN, 49 EPAD

## IC,MP2625,QFN20,CHG/PWR PATH_0
designator U?, comment MP2625GL
IC,MP2625,QFN20,SINGLE CELL SWITCHING CHARGER WITH POWER PATH CONTROL; Vendor: MPS; VPN: MP2625GL
footprint qfn20_3x4mm
pins: 1 BST, 2 SW1, 3 IN, 4 SW2, 5 PGND, 6 ~{EN}, 7 M0, 8 M1, 9 ~{CHGOK}, 10 ~{ACOK}, 11 AGND, 12 SYSFB, 13 SYS, 14 BATT, 15 ISET, 16 NTC, 17 ILIM, 18 TMR, 19 VLIM, 20 VCC

## IC,MP2625,QFN20,CHG/PWR PATH_1
designator U?, comment MP2625GL
IC,MP2625,QFN20,SINGLE CELL SWITCHING CHARGER WITH POWER PATH CONTROL; Vendor: MPS; VPN: MP2625GL
footprint qfn20_3x4mm
pins: 1 BST, 2 SW1, 3 IN, 4 SW2, 5 PGND, 6 ~{EN}, 7 M0, 8 M1, 9 ~{CHGOK}, 10 ~{ACOK}, 11 AGND, 12 SYSFB, 13 SYS, 14 BATT, 15 ISET, 16 NTC, 17 ILIM, 18 TMR, 19 VLIM, 20 VCC

## IC,MP2625,QFN20,CHG/PWR PATH_2
designator U?, comment MP2625GL
IC,MP2625,QFN20,SINGLE CELL SWITCHING CHARGER WITH POWER PATH CONTROL; Vendor: MPS; VPN: MP2625GL
footprint qfn20_3x4mm
pins: 1 BST, 2 SW1, 3 IN, 4 SW2, 5 PGND, 6 ~{EN}, 7 M0, 8 M1, 9 ~{CHGOK}, 10 ~{ACOK}, 11 AGND, 12 SYSFB, 13 SYS, 14 BATT, 15 ISET, 16 NTC, 17 ILIM, 18 TMR, 19 VLIM, 20 VCC

## IC,MP2625,QFN20,CHG/PWR PATH_3
designator U?, comment MP2625GL
IC,MP2625,QFN20,SINGLE CELL SWITCHING CHARGER WITH POWER PATH CONTROL; Vendor: MPS; VPN: MP2625GL
footprint qfn20_3x4mm
pins: 1 BST, 2 SW1, 3 IN, 4 SW2, 5 PGND, 6 ~{EN}, 7 M0, 8 M1, 9 ~{CHGOK}, 10 ~{ACOK}, 11 AGND, 12 SYSFB, 13 SYS, 14 BATT, 15 ISET, 16 NTC, 17 ILIM, 18 TMR, 19 VLIM, 20 VCC

## IC,MP2625,QFN20,CHG/PWR PATH_4
designator U?, comment MP2625GL
IC,MP2625,QFN20,SINGLE CELL SWITCHING CHARGER WITH POWER PATH CONTROL; Vendor: MPS; VPN: MP2625GL
footprint qfn20_3x4mm
pins: 1 BST, 2 SW1, 3 IN, 4 SW2, 5 PGND, 6 ~{EN}, 7 M0, 8 M1, 9 ~{CHGOK}, 10 ~{ACOK}, 11 AGND, 12 SYSFB, 13 SYS, 14 BATT, 15 ISET, 16 NTC, 17 ILIM, 18 TMR, 19 VLIM, 20 VCC

## IC,NLX2G14,ULLGA6,2 Inverter_0
designator U?, comment NLX2G14AMX1TCG
IC,NLX2G14AMX1TCG,ULLGA6,Dual Schmitt-Trigger Inverter; Vendor: ON SEMI; VPN: NLX2G14AMX1TCG
footprint ullga6_0p5_1p45x1mm
pins: 1 +INR, 2 -INR, 3 OUTR, 4 SGND, 5 EN, 6 PVSS, 7 CN, 8 CP, 9 PVDD, 10 PGND, 11 UVP, 12 OUTL, 13 -INL, 14 +INL
text: Ext. UVP; Charge Pump

## IC,RT9378,WQFN12L,4CH LED DRV_0
designator U?, comment RT9378GQW
IC,RT9378,WQFN12L,4 CHs 100mA x1/x1.5/x2 Charge Pump White LED Driver; Vendor: Richtek; VPN: RT9378GQW
footprint wqfn12l_0p4_2x2mm
pins: 1 C1N, 2 GND, 3 C1P, 4 C2P, 5 VIN, 6 EN, 7 LED1, 8 LED2, 9 LED3, 10 LED4, 11 VOUT, 12 C2N, 13 EPAD

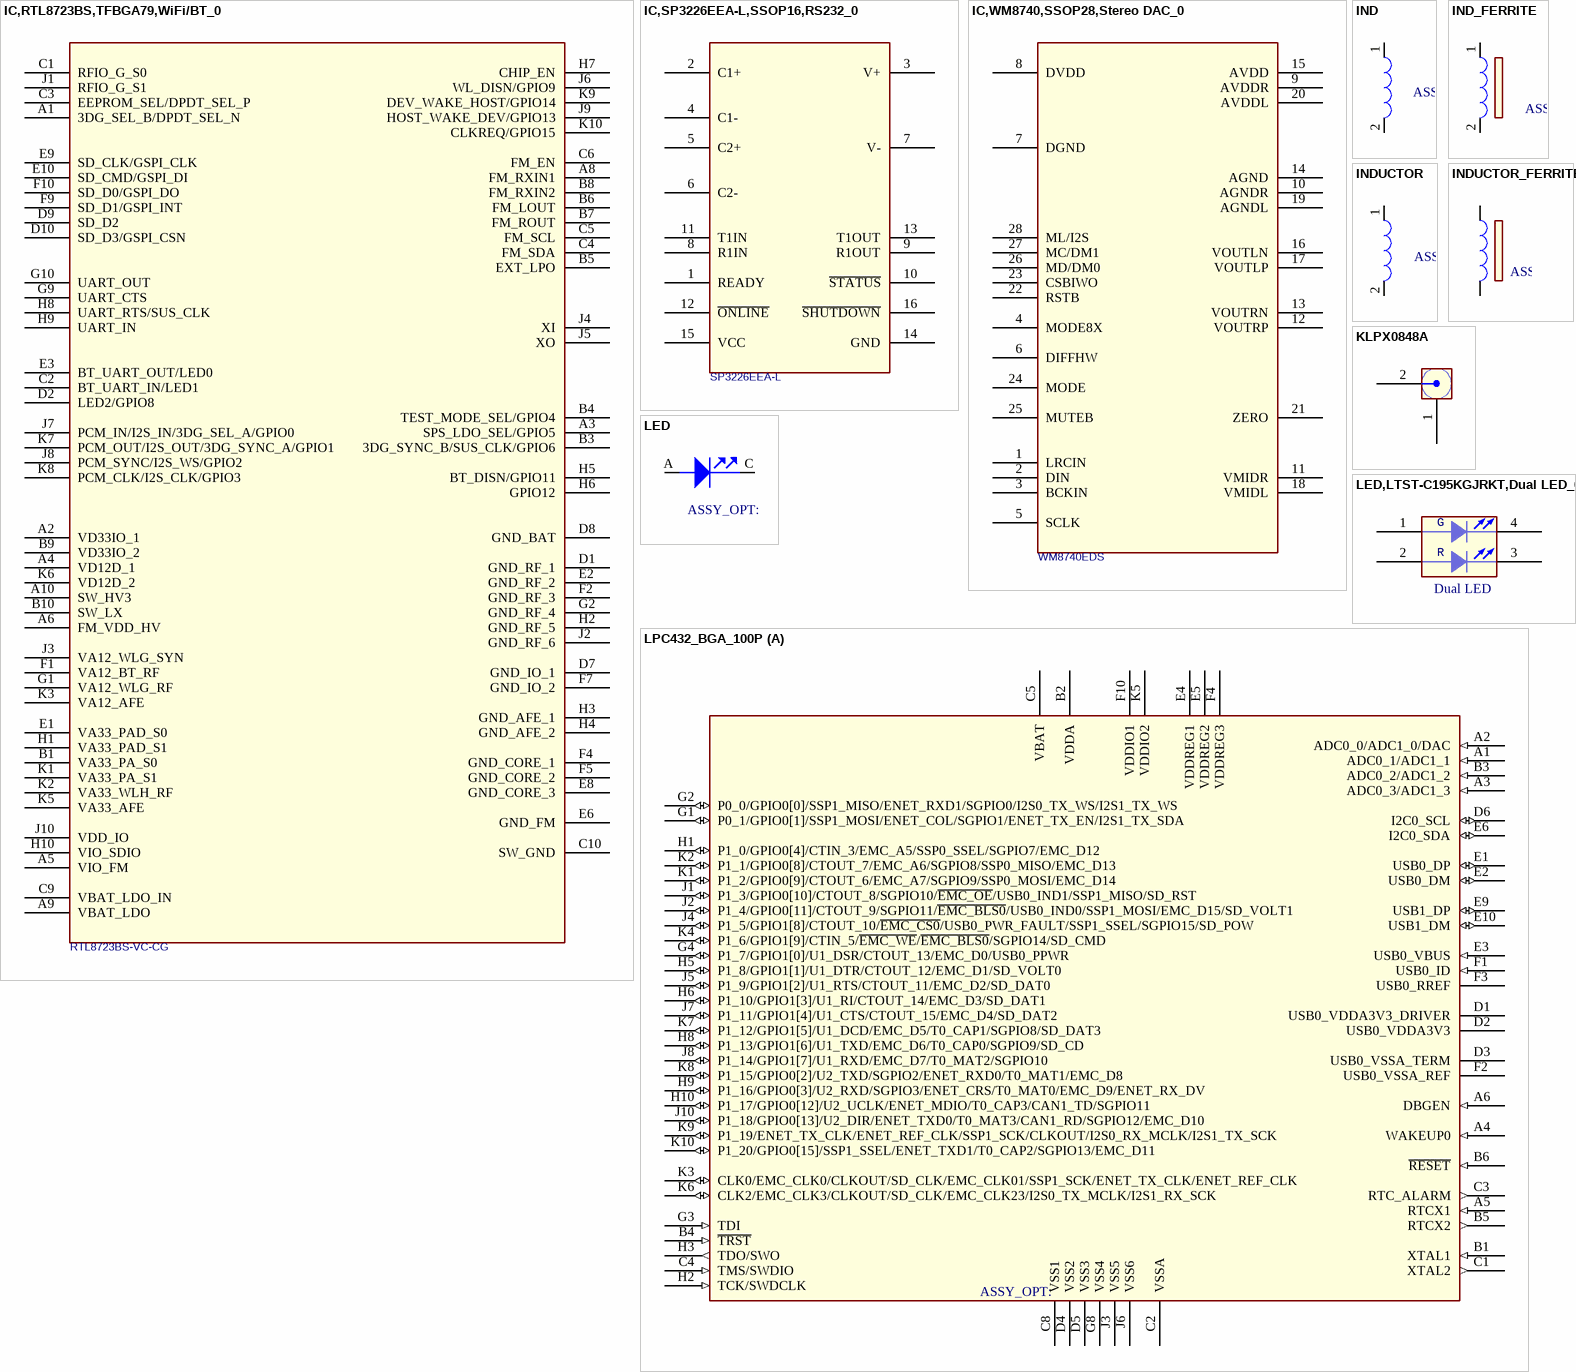
[diagram p5: symbols IC,RTL8723BS,TFBGA79,WiFi/BT_0 to LPC432_BGA_100P]

## IC,RTL8723BS,TFBGA79,WiFi/BT_0
designator U?, comment RTL8723BS-VC-CG
IC,RTL8723BS,TFBGA79,WiFi/BT; Vendor: Realtek; VPN: RTL8723BS-VC-CG
footprint TFBGA79
pins: A1 3DG_SEL_B/DPDT_SEL_N, A2 VD33IO_1, A3 SPS_LDO_SEL/GPIO5, A4 VD12D_1, A5 VIO_FM, A6 FM_VDD_HV, A8 FM_RXIN1, A9 VBAT_LDO, A10 SW_HV3, B1 VA33_PA_S0, B3 3DG_SYNC_B/SUS_CLK/GPIO6, B4 TEST_MODE_SEL/GPIO4, B5 EXT_LPO, B6 FM_LOUT, B7 FM_ROUT, B8 FM_RXIN2, B9 VD33IO_2, B10 SW_LX, C1 RFIO_G_S0, C2 BT_UART_IN/LED1, C3 EEPROM_SEL/DPDT_SEL_P, C4 FM_SDA, C5 FM_SCL, C6 FM_EN, C9 VBAT_LDO_IN, C10 SW_GND, D1 GND_RF_1, D2 LED2/GPIO8, D7 GND_IO_1, D8 GND_BAT, D9 SD_D2, D10 SD_D3/GSPI_CSN, E1 VA33_PAD_S0, E2 GND_RF_2, E3 BT_UART_OUT/LED0, E6 GND_FM, E8 GND_CORE_3, E9 SD_CLK/GSPI_CLK, E10 SD_CMD/GSPI_DI, F1 VA12_BT_RF, F2 GND_RF_3, F4 GND_CORE_1, F5 GND_CORE_2, F7 GND_IO_2, F9 SD_D1/GSPI_INT, F10 SD_D0/GSPI_DO, G1 VA12_WLG_RF, G2 GND_RF_4, G9 UART_CTS, G10 UART_OUT, H1 VA33_PAD_S1, H2 GND_RF_5, H3 GND_AFE_1, H4 GND_AFE_2, H5 BT_DISN/GPIO11, H6 GPIO12, H7 CHIP_EN, H8 UART_RTS/SUS_CLK, H9 UART_IN, H10 VIO_SDIO, J1 RFIO_G_S1, J2 GND_RF_6, J3 VA12_WLG_SYN, J4 XI, J5 XO, J6 WL_DISN/GPIO9, J7 PCM_IN/I2S_IN/3DG_SEL_A/GPIO0, J8 PCM_SYNC/I2S_WS/GPIO2, J9 HOST_WAKE_DEV/GPIO13, J10 VDD_IO, K1 VA33_PA_S1, K2 VA33_WLH_RF, K3 VA12_AFE, K5 VA33_AFE, K6 VD12D_2, K7 PCM_OUT/I2S_OUT/3DG_SYNC_A/GPIO1, K8 PCM_CLK/I2S_CLK/GPIO3, K9 DEV_WAKE_HOST/GPIO14, K10 CLKREQ/GPIO15

## IC,SP3226EEA-L,SSOP16,RS232_0
designator U?, comment SP3226EEA-L
IC,SP3226EEA-L,SSOP16,RS232; Vendor: Exar; VPN: SP3226EEA-L
footprint ssop16_0p65_7p8x6p2mm
pins: 1 READY, 2 C1+, 3 V+, 4 C1-, 5 C2+, 6 C2-, 7 V-, 8 R1IN, 9 R1OUT, 10 ~{STATUS}, 11 T1IN, 12 ~{ONLINE}, 13 T1OUT, 14 GND, 15 VCC, 16 ~{SHUTDOWN}

## IC,WM8740,SSOP28,Stereo DAC_0
designator U?, comment WM8740EDS
IC,WM8740,SSOP28,24bit/192K Stereo DAC; Vendor: Wolfson; VPN: WM8740EDS
footprint ssop28_0p65_10p2x7p8mm
pins: 1 LRCIN, 2 DIN, 3 BCKIN, 4 MODE8X, 5 SCLK, 6 DIFFHW, 7 DGND, 8 DVDD, 9 AVDDR, 10 AGNDR, 11 VMIDR, 12 VOUTRP, 13 VOUTRN, 14 AGND, 15 AVDD, 16 VOUTLN, 17 VOUTLP, 18 VMIDL, 19 AGNDL, 20 AVDDL, 21 ZERO, 22 RSTB, 23 CSBIWO, 24 MODE, 25 MUTEB, 26 MD/DM0, 27 MC/DM1, 28 ML/I2S

## IND
designator L?
CLASS: DISCRETE
pins: 1, 2

## IND_FERRITE
designator L?
CLASS: DISCRETE
pins: 1, 2

## INDUCTOR
designator L?
CLASS: DISCRETE
pins: 1, 2

## INDUCTOR_FERRITE
designator L?
CLASS: DISCRETE
pins: 1, 2

## KLPX0848A
designator J?
pins: 1, 2

## LED
designator D?
CLASS: IC
pins: A ANODE, C CATHODE

## LED,LTST-C195KGJRKT,Dual LED_0
designator D?, comment Dual LED
LED,LTST-C195KGJRKT,Dual color LED; Vendor: LITE-ON; VPN: LTST-C195KGJRKT
footprint D2LED
pins: 1, 2, 3, 4
text: G; R

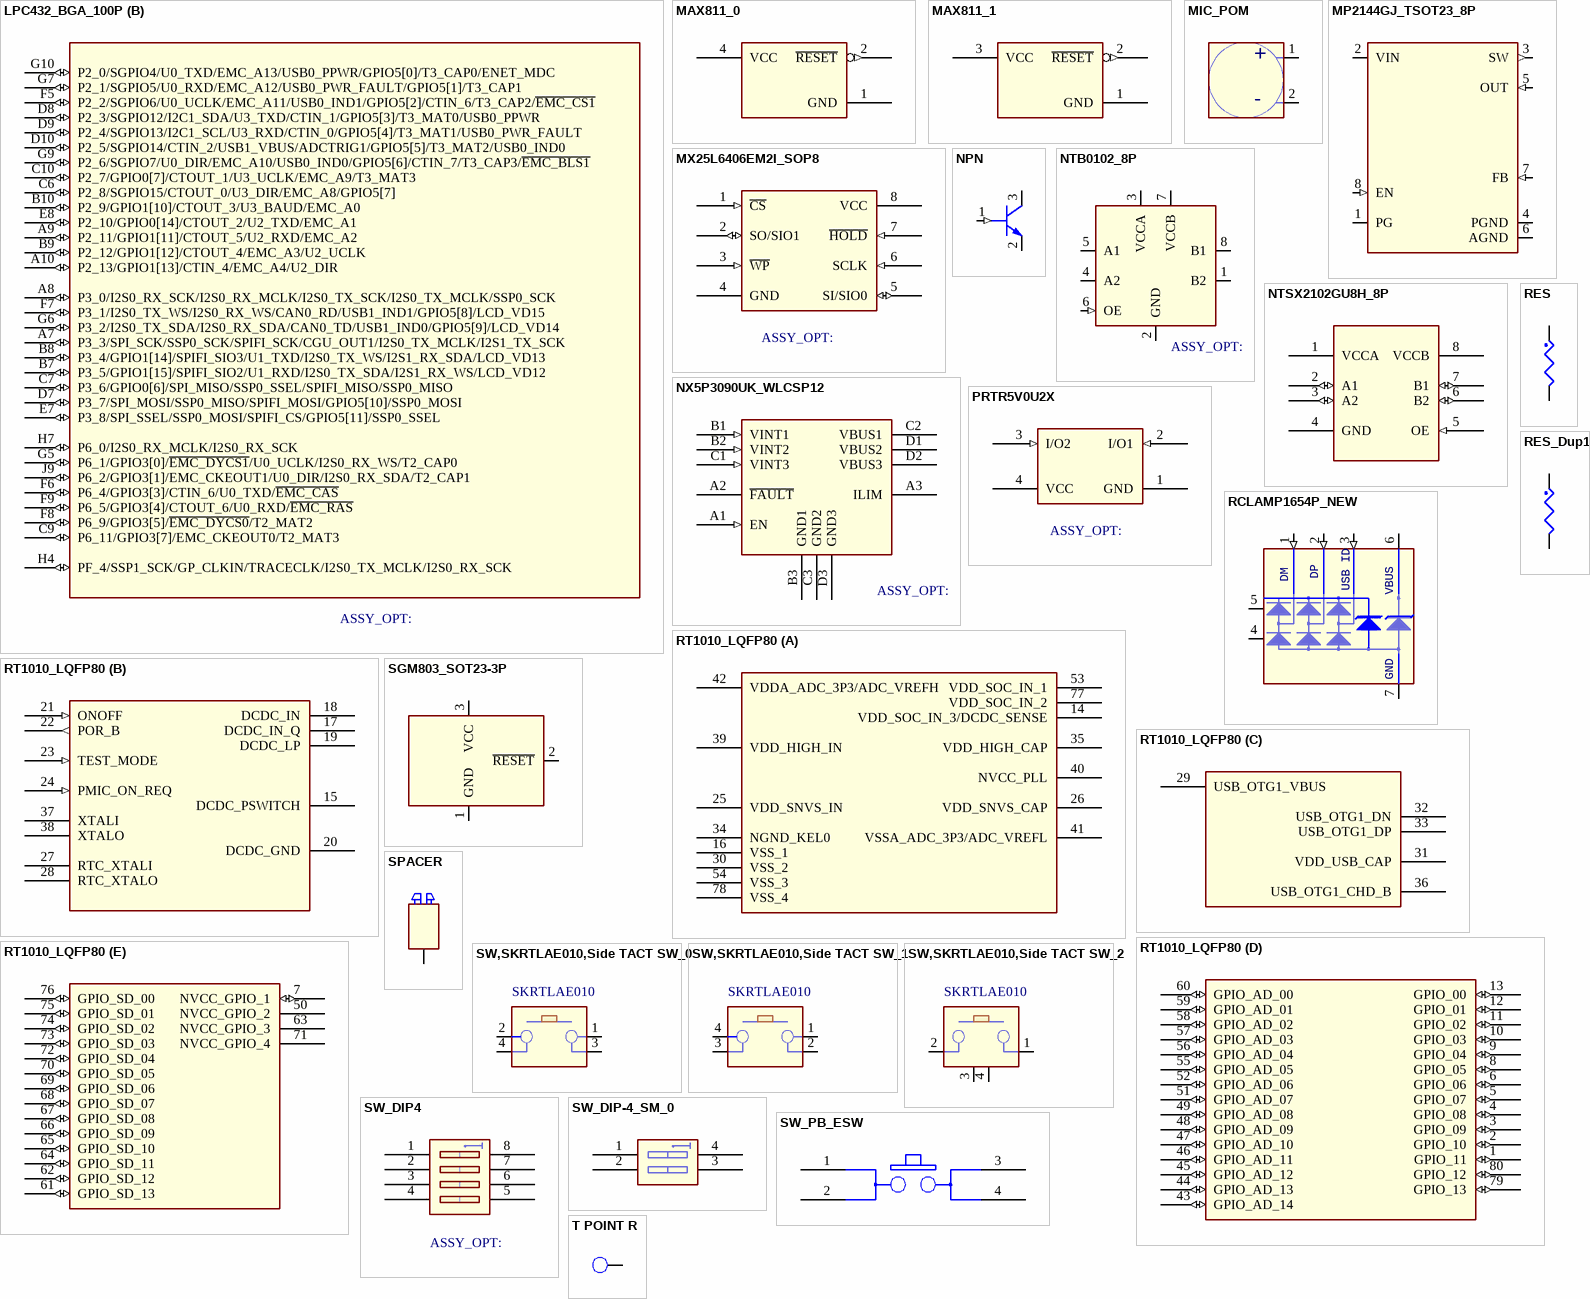
[diagram p6: symbols LPC432_BGA_100P to T POINT R]

## LPC432_BGA_100P
designator U?
SWAP_INFO: (S1+S2); SPLIT_INST: TRUE; CLASS: IC
part A pins: A1 ADC0_1/ADC1_1 (in), A2 ADC0_0/ADC1_0/DAC (in), A3 ADC0_3/ADC1_3 (in), A4 WAKEUP0 (in), A5 RTCX1 (in), A6 DBGEN (in), B1 XTAL1 (in), B2 VDDA (power), B3 ADC0_2/ADC1_2 (in), B4 ~{TRST} (in), B5 RTCX2 (out), B6 ~{RESET} (in), C1 XTAL2 (out), C2 VSSA (power), C3 RTC_ALARM (out), C4 TMS/SWDIO (in), C5 VBAT (power), C8 VSS1 (power), D1 USB0_VDDA3V3_DRIVER (power), D2 USB0_VDDA3V3 (power), D3 USB0_VSSA_TERM (power), D4 VSS2 (power), D5 VSS3 (power), D6 I2C0_SCL (io), E1 USB0_DP (io), E2 USB0_DM (io), E3 USB0_VBUS (in), E4 VDDREG1 (power), E5 VDDREG2 (power), E6 I2C0_SDA (io), E9 USB1_DP (io), E10 USB1_DM (io), F1 USB0_ID (in), F2 USB0_VSSA_REF (power), F3 USB0_RREF, F4 VDDREG3 (power), F10 VDDIO1 (power), G1 P0_1/GPIO0[1]/SSP1_MOSI/ENET_COL/SGPIO1/ENET_TX_EN/I2S1_TX_SDA (io), G2 P0_0/GPIO0[0]/SSP1_MISO/ENET_RXD1/SGPIO0/I2S0_TX_WS/I2S1_TX_WS (io), G3 TDI (in), G4 P1_7/GPIO1[0]/U1_DSR/CTOUT_13/EMC_D0/USB0_PPWR (io), G8 VSS4 (power), H1 P1_0/GPIO0[4]/CTIN_3/EMC_A5/SSP0_SSEL/SGPIO7/EMC_D12 (io), H2 TCK/SWDCLK (in), H3 TDO/SWO (out), H5 P1_8/GPIO1[1]/U1_DTR/CTOUT_12/EMC_D1/SD_VOLT0 (io), H6 P1_10/GPIO1[3]/U1_RI/CTOUT_14/EMC_D3/SD_DAT1 (io), H8 P1_13/GPIO1[6]/U1_TXD/EMC_D6/T0_CAP0/SGPIO9/SD_CD (io), H9 P1_16/GPIO0[3]/U2_RXD/SGPIO3/ENET_CRS/T0_MAT0/EMC_D9/ENET_RX_DV (io), H10 P1_17/GPIO0[12]/U2_UCLK/ENET_MDIO/T0_CAP3/CAN1_TD/SGPIO11 (io), J1 P1_3/GPIO0[10]/CTOUT_8/SGPIO10/~{EMC_OE}/USB0_IND1/SSP1_MISO/SD_RST (io), J2 P1_4/GPIO0[11]/CTOUT_9/SGPIO11/~{EMC_BLS0}/USB0_IND0/SSP1_MOSI/EMC_D15/SD_VOLT1 (io), J3 VSS5 (power), J4 P1_5/GPIO1[8]/CTOUT_10/~{EMC_CS0}/USB0_PWR_FAULT/SSP1_SSEL/SGPIO15/SD_POW (io), J5 P1_9/GPIO1[2]/U1_RTS/CTOUT_11/EMC_D2/SD_DAT0 (io), J6 VSS6 (power), J7 P1_11/GPIO1[4]/U1_CTS/CTOUT_15/EMC_D4/SD_DAT2 (io), J8 P1_14/GPIO1[7]/U1_RXD/EMC_D7/T0_MAT2/SGPIO10 (io), J10 P1_18/GPIO0[13]/U2_DIR/ENET_TXD0/T0_MAT3/CAN1_RD/SGPIO12/EMC_D10 (io), K1 P1_2/GPIO0[9]/CTOUT_6/EMC_A7/SGPIO9/SSP0_MOSI/EMC_D14 (io), K2 P1_1/GPIO0[8]/CTOUT_7/EMC_A6/SGPIO8/SSP0_MISO/EMC_D13 (io), K3 CLK0/EMC_CLK0/CLKOUT/SD_CLK/EMC_CLK01/SSP1_SCK/ENET_TX_CLK/ENET_REF_CLK (io), K4 P1_6/GPIO1[9]/CTIN_5/~{EMC_WE}/~{EMC_BLS0}/SGPIO14/SD_CMD (io), K5 VDDIO2 (power), K6 CLK2/EMC_CLK3/CLKOUT/SD_CLK/EMC_CLK23/I2S0_TX_MCLK/I2S1_RX_SCK (io), K7 P1_12/GPIO1[5]/U1_DCD/EMC_D5/T0_CAP1/SGPIO8/SD_DAT3 (io), K8 P1_15/GPIO0[2]/U2_TXD/SGPIO2/ENET_RXD0/T0_MAT1/EMC_D8 (io), K9 P1_19/ENET_TX_CLK/ENET_REF_CLK/SSP1_SCK/CLKOUT/I2S0_RX_MCLK/I2S1_TX_SCK (io), K10 P1_20/GPIO0[15]/SSP1_SSEL/ENET_TXD1/T0_CAP2/SGPIO13/EMC_D11 (io)
part B pins: A7 P3_3/SPI_SCK/SSP0_SCK/SPIFI_SCK/CGU_OUT1/I2S0_TX_MCLK/I2S1_TX_SCK (io), A8 P3_0/I2S0_RX_SCK/I2S0_RX_MCLK/I2S0_TX_SCK/I2S0_TX_MCLK/SSP0_SCK (io), A9 P2_11/GPIO1[11]/CTOUT_5/U2_RXD/EMC_A2 (io), A10 P2_13/GPIO1[13]/CTIN_4/EMC_A4/U2_DIR (io), B7 P3_5/GPIO1[15]/SPIFI_SIO2/U1_RXD/I2S0_TX_SDA/I2S1_RX_WS/LCD_VD12 (io), B8 P3_4/GPIO1[14]/SPIFI_SIO3/U1_TXD/I2S0_TX_WS/I2S1_RX_SDA/LCD_VD13 (io), B9 P2_12/GPIO1[12]/CTOUT_4/EMC_A3/U2_UCLK (io), B10 P2_9/GPIO1[10]/CTOUT_3/U3_BAUD/EMC_A0 (io), C6 P2_8/SGPIO15/CTOUT_0/U3_DIR/EMC_A8/GPIO5[7] (io), C7 P3_6/GPIO0[6]/SPI_MISO/SSP0_SSEL/SPIFI_MISO/SSP0_MISO (io), C9 P6_11/GPIO3[7]/EMC_CKEOUT0/T2_MAT3 (io), C10 P2_7/GPIO0[7]/CTOUT_1/U3_UCLK/EMC_A9/T3_MAT3 (io), D7 P3_7/SPI_MOSI/SSP0_MISO/SPIFI_MOSI/GPIO5[10]/SSP0_MOSI (io), D8 P2_3/SGPIO12/I2C1_SDA/U3_TXD/CTIN_1/GPIO5[3]/T3_MAT0/USB0_PPWR (io), D9 P2_4/SGPIO13/I2C1_SCL/U3_RXD/CTIN_0/GPIO5[4]/T3_MAT1/USB0_PWR_FAULT (io), D10 P2_5/SGPIO14/CTIN_2/USB1_VBUS/ADCTRIG1/GPIO5[5]/T3_MAT2/USB0_IND0 (io), E7 P3_8/SPI_SSEL/SSP0_MOSI/SPIFI_CS/GPIO5[11]/SSP0_SSEL (io), E8 P2_10/GPIO0[14]/CTOUT_2/U2_TXD/EMC_A1 (io), F5 P2_2/SGPIO6/U0_UCLK/EMC_A11/USB0_IND1/GPIO5[2]/CTIN_6/T3_CAP2/~{EMC_CS1} (io), F6 P6_4/GPIO3[3]/CTIN_6/U0_TXD/~{EMC_CAS} (io), F7 P3_1/I2S0_TX_WS/I2S0_RX_WS/CAN0_RD/USB1_IND1/GPIO5[8]/LCD_VD15 (io), F8 P6_9/GPIO3[5]/~{EMC_DYCS0}/T2_MAT2 (io), F9 P6_5/GPIO3[4]/CTOUT_6/U0_RXD/~{EMC_RAS} (io), G5 P6_1/GPIO3[0]/~{EMC_DYCS1}/U0_UCLK/I2S0_RX_WS/T2_CAP0 (io), G6 P3_2/I2S0_TX_SDA/I2S0_RX_SDA/CAN0_TD/USB1_IND0/GPIO5[9]/LCD_VD14 (io), G7 P2_1/SGPIO5/U0_RXD/EMC_A12/USB0_PWR_FAULT/GPIO5[1]/T3_CAP1 (io), G9 P2_6/SGPIO7/U0_DIR/EMC_A10/USB0_IND0/GPIO5[6]/CTIN_7/T3_CAP3/~{EMC_BLS1} (io), G10 P2_0/SGPIO4/U0_TXD/EMC_A13/USB0_PPWR/GPIO5[0]/T3_CAP0/ENET_MDC (io), H4 PF_4/SSP1_SCK/GP_CLKIN/TRACECLK/I2S0_TX_MCLK/I2S0_RX_SCK (io), H7 P6_0/I2S0_RX_MCLK/I2S0_RX_SCK (io), J9 P6_2/GPIO3[1]/EMC_CKEOUT1/U0_DIR/I2S0_RX_SDA/T2_CAP1 (io)

## MAX811_0
designator U?
CLASS: IC
pins: 1 GND (power), 2 ~{RESET} (out), 4 VCC

## MAX811_1
designator U?
CLASS: IC
pins: 1 GND (power), 2 ~{RESET} (out), 3 VCC

## MIC_POM
designator P?
CLASS: IC
pins: 1 Out, 2 GND
text: +; -

## MP2144GJ_TSOT23_8P
designator U?
CLASS: IC
pins: 1 PG (oc), 2 VIN (power), 3 SW (out), 4 PGND (power), 5 OUT (in), 6 AGND (power), 7 FB (in), 8 EN (in)

## MX25L6406EM2I_SOP8
designator U?
CLASS: IC
pins: 1 ~{CS} (in), 2 SO/SIO1 (io), 3 ~{WP} (in), 4 GND (power), 5 SI/SIO0 (io), 6 SCLK (in), 7 ~{HOLD} (in), 8 VCC (power)

## NPN
designator Q?
CLASS: IC
pins: 1 BASE (in), 2 EMITTER, 3 COLLECTOR

## NTB0102_8P
designator U?
CLASS: IC
pins: 1 B2 (io), 2 GND (power), 3 VCCA (power), 4 A2 (io), 5 A1 (io), 6 OE (in), 7 VCCB (power), 8 B1 (io)

## NTSX2102GU8H_8P
designator U?
CLASS: IC
footprint SO-8
pins: 1 VCCA (power), 2 A1 (io), 3 A2 (io), 4 GND (power), 5 OE (in), 6 B2 (io), 7 B1 (io), 8 VCCB (power)

## NX5P3090UK_WLCSP12
designator U?
CLASS: IC
pins: A1 EN (in), A2 ~{FAULT} (oc), A3 ILIM, B1 VINT1 (in), B2 VINT2 (in), B3 GND1 (power), C1 VINT3 (in), C2 VBUS1, C3 GND2 (power), D1 VBUS2, D2 VBUS3, D3 GND3 (power)

## PRTR5V0U2X
designator U?
CLASS: IC
pins: 1 GND (power), 2 I/O1 (in), 3 I/O2 (in), 4 VCC

## RCLAMP1654P_NEW
designator U?
CLASS: IC
pins: 1 DM (in), 2 DP (in), 3 USB ID (in), 4 NC1, 5 NC2, 6 VBUS (power), 7 GND (power)

## RES
designator R?
CLASS: DISCRETE
pins: 1, 2

## RES_Dup1
designator R?
CLASS: DISCRETE
pins: 1, 2

## RT1010_LQFP80
designator U?
part A pins: 14 VDD_SOC_IN_3/DCDC_SENSE (power), 16 VSS_1 (power), 25 VDD_SNVS_IN (power), 26 VDD_SNVS_CAP (power), 30 VSS_2 (power), 34 NGND_KEL0 (power), 35 VDD_HIGH_CAP (power), 39 VDD_HIGH_IN (power), 40 NVCC_PLL (power), 41 VSSA_ADC_3P3/ADC_VREFL, 42 VDDA_ADC_3P3/ADC_VREFH (power), 53 VDD_SOC_IN_1 (power), 54 VSS_3 (power), 77 VDD_SOC_IN_2 (power), 78 VSS_4 (power)
part B pins: 15 DCDC_PSWITCH (power), 17 DCDC_IN_Q (power), 18 DCDC_IN (power), 19 DCDC_LP (power), 20 DCDC_GND (power), 21 ONOFF (in), 22 POR_B (out), 23 TEST_MODE (in), 24 PMIC_ON_REQ (in), 27 RTC_XTALI, 28 RTC_XTALO, 37 XTALI, 38 XTALO
part C pins: 29 USB_OTG1_VBUS, 31 VDD_USB_CAP (power), 32 USB_OTG1_DN, 33 USB_OTG1_DP, 36 USB_OTG1_CHD_B
part D pins: 1 GPIO_11 (io), 2 GPIO_10 (io), 3 GPIO_09 (io), 4 GPIO_08 (io), 5 GPIO_07 (io), 6 GPIO_06 (io), 8 GPIO_05 (io), 9 GPIO_04 (io), 10 GPIO_03 (io), 11 GPIO_02 (io), 12 GPIO_01 (io), 13 GPIO_00 (io), 43 GPIO_AD_14 (io), 44 GPIO_AD_13 (io), 45 GPIO_AD_12 (io), 46 GPIO_AD_11 (io), 47 GPIO_AD_10 (io), 48 GPIO_AD_09 (io), 49 GPIO_AD_08 (io), 51 GPIO_AD_07 (io), 52 GPIO_AD_06 (io), 55 GPIO_AD_05 (io), 56 GPIO_AD_04 (io), 57 GPIO_AD_03 (io), 58 GPIO_AD_02 (io), 59 GPIO_AD_01 (io), 60 GPIO_AD_00 (io), 79 GPIO_13 (io), 80 GPIO_12 (io)
part E pins: 7 NVCC_GPIO_1 (io), 50 NVCC_GPIO_2 (power), 61 GPIO_SD_13 (io), 62 GPIO_SD_12 (io), 63 NVCC_GPIO_3 (power), 64 GPIO_SD_11 (io), 65 GPIO_SD_10 (io), 66 GPIO_SD_09 (io), 67 GPIO_SD_08 (io), 68 GPIO_SD_07 (io), 69 GPIO_SD_06 (io), 70 GPIO_SD_05 (io), 71 NVCC_GPIO_4 (power), 72 GPIO_SD_04 (io), 73 GPIO_SD_03 (io), 74 GPIO_SD_02 (io), 75 GPIO_SD_01 (io), 76 GPIO_SD_00 (io)

## SGM803_SOT23-3P
designator U?
CLASS: IC
pins: 1 GND (power), 2 ~{RESET} (oc), 3 VCC (power)

## SPACER
designator SS?
CLASS: IC
pins: 1 NC_1

## SW,SKRTLAE010,Side TACT SW_0
designator SW?, comment SKRTLAE010
SW,SKRTLAE010,ALPS Side tactile Swith; VPN: SKRTLAE010; Vendor: ALPS
footprint SKRTLAE010
pins: 1 OUT1, 2 IN1, 3 OUT2, 4 GND1

## SW,SKRTLAE010,Side TACT SW_1
designator SW?, comment SKRTLAE010
SW,SKRTLAE010,ALPS Side tactile Swith; VPN: SKRTLAE010; Vendor: ALPS
footprint SKRTLAE010
pins: 1 OUT1, 2 IN1, 3 OUT2, 4 GND1

## SW,SKRTLAE010,Side TACT SW_2
designator SW?, comment SKRTLAE010
SW,SKRTLAE010,ALPS Side tactile Swith; Vendor: ALPS; VPN: SKRTLAE010
footprint SKRTLAE010
pins: 1 OUT1, 2 IN1, 3 OUT2, 4 GND1

## SW_DIP4
designator SW?
CLASS: IC
pins: 1 A1, 2 A2, 3 A3, 4 A4, 5 B4, 6 B3, 7 B2, 8 B1

## SW_DIP-4_SM_0
designator SW?
CLASS: IC
pins: 1 A1, 2 A2, 3 A3, 4 A4

## SW_PB_ESW
designator SW?
CLASS: IC
pins: 1 A1, 2 A2, 3 B1, 4 B2

## T POINT R
designator TP?  (value not drawn)
CLASS: IC
pins: 1 TP

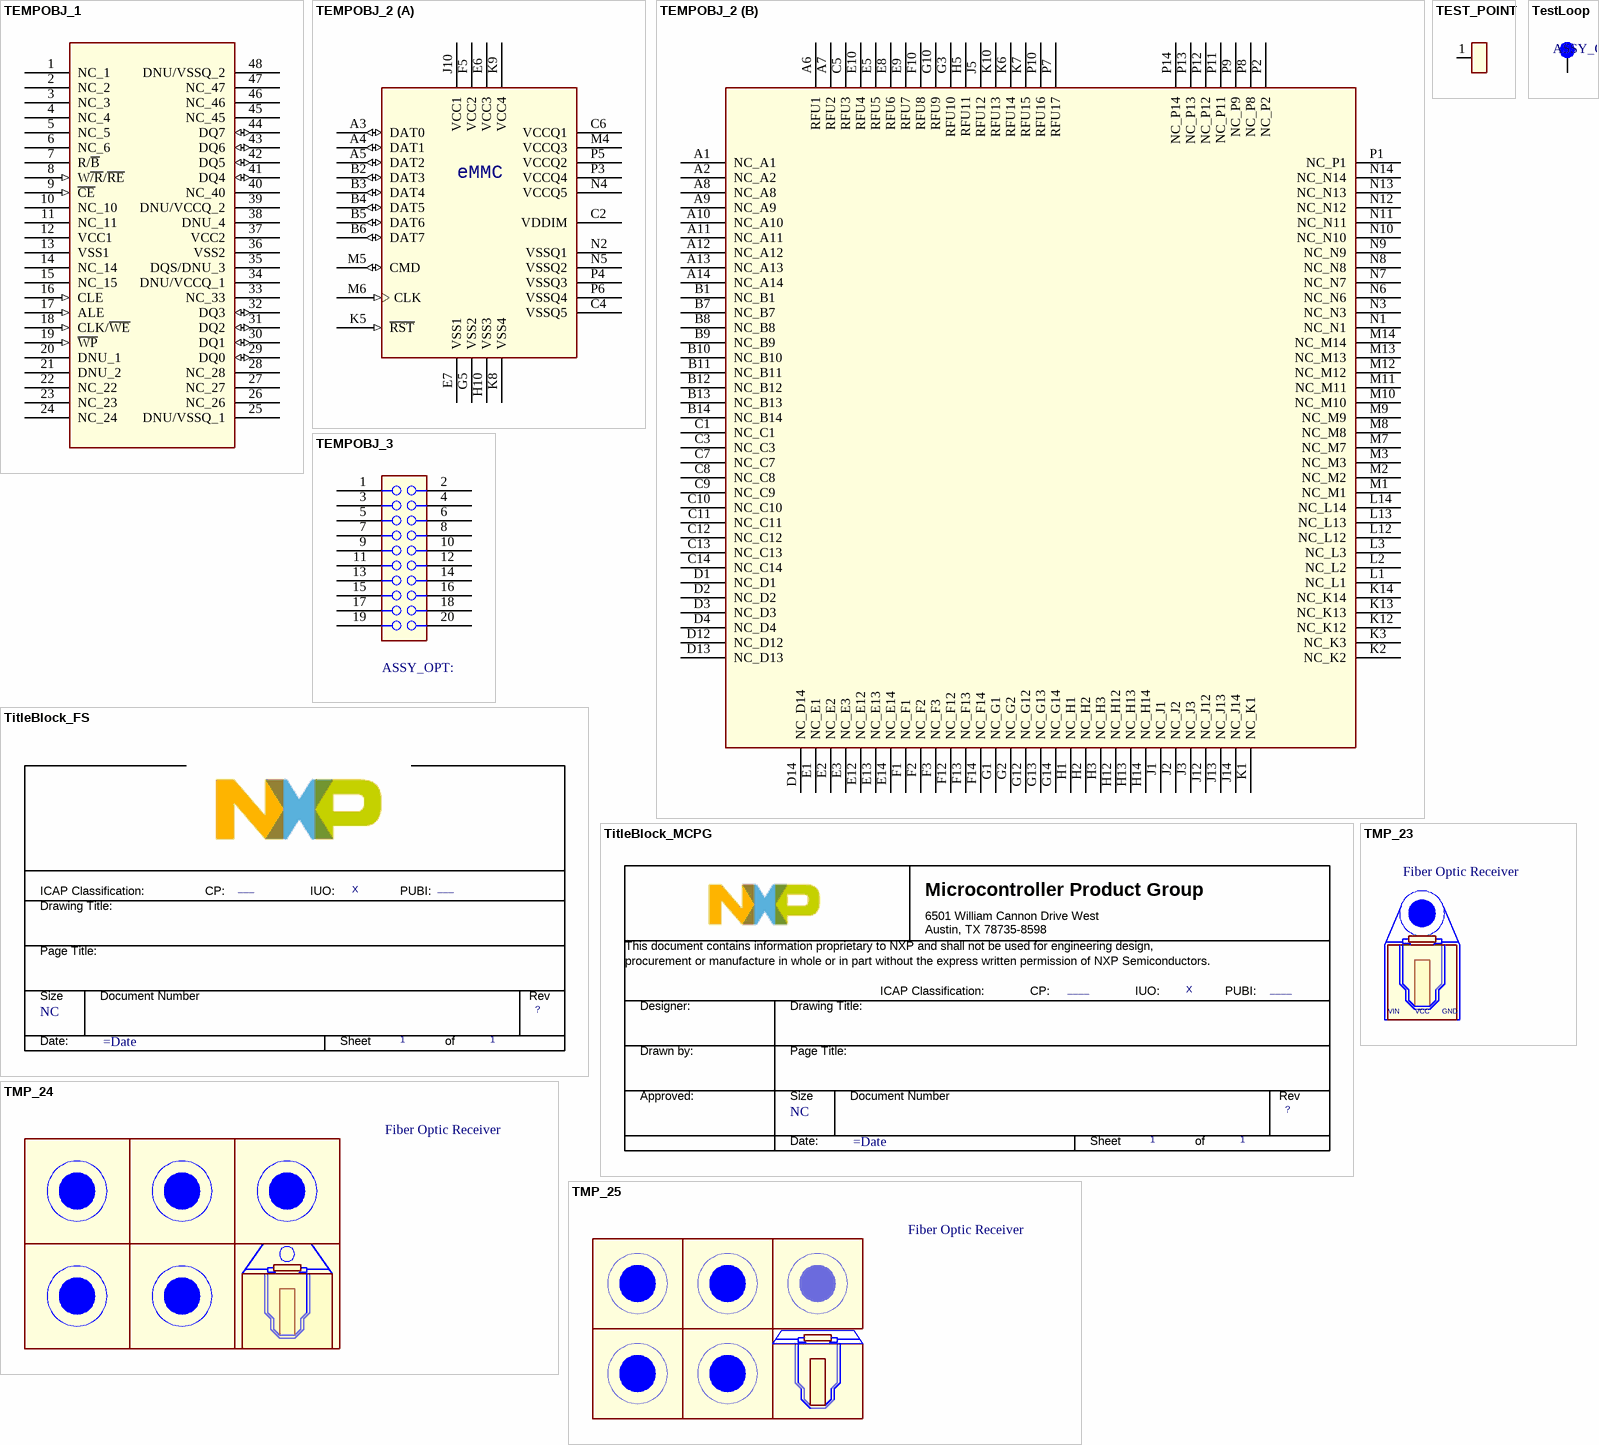
[diagram p7: symbols TEMPOBJ_1 to TMP_25]

## TEMPOBJ_1
designator U?
CLASS: IC
footprint TSOP48
pins: 1 NC_1, 2 NC_2, 3 NC_3, 4 NC_4, 5 NC_5, 6 NC_6, 7 R/~{B} (oc), 8 W~{/R}/~{RE} (in), 9 ~{CE} (in), 10 NC_10, 11 NC_11, 12 VCC1 (power), 13 VSS1 (power), 14 NC_14, 15 NC_15, 16 CLE (in), 17 ALE (in), 18 CLK/~{WE} (in), 19 ~{WP} (in), 20 DNU_1, 21 DNU_2, 22 NC_22, 23 NC_23, 24 NC_24, 25 DNU/VSSQ_1 (power), 26 NC_26, 27 NC_27, 28 NC_28, 29 DQ0 (io), 30 DQ1 (io), 31 DQ2 (io), 32 DQ3 (io), 33 NC_33, 34 DNU/VCCQ_1 (power), 35 DQS/DNU_3, 36 VSS2 (power), 37 VCC2 (power), 38 DNU_4, 39 DNU/VCCQ_2, 40 NC_40, 41 DQ4 (io), 42 DQ5 (io), 43 DQ6 (io), 44 DQ7 (io), 45 NC_45, 46 NC_46, 47 NC_47, 48 DNU/VSSQ_2 (power)

## TEMPOBJ_2
designator U?
CLASS: IC
footprint WFBGA153
part A pins: A3 DAT0 (io), A4 DAT1 (io), A5 DAT2 (io), B2 DAT3 (io), B3 DAT4 (io), B4 DAT5 (io), B5 DAT6 (io), B6 DAT7 (io), C2 VDDIM (power), C4 VSSQ5 (power), C6 VCCQ1 (power), E6 VCC3 (power), E7 VSS1 (power), F5 VCC2 (power), G5 VSS2 (power), H10 VSS3 (power), J10 VCC1 (power), K5 ~{RST} (in), K8 VSS4 (power), K9 VCC4 (power), M4 VCCQ3 (power), M5 CMD (io), M6 CLK (in), N2 VSSQ1 (power), N4 VCCQ5 (power), N5 VSSQ2 (power), P3 VCCQ4 (power), P4 VSSQ3 (power), P5 VCCQ2 (power), P6 VSSQ4 (power)
part B pins: A1 NC_A1, A2 NC_A2, A6 RFU1, A7 RFU2, A8 NC_A8, A9 NC_A9, A10 NC_A10, A11 NC_A11, A12 NC_A12, A13 NC_A13, A14 NC_A14, B1 NC_B1, B7 NC_B7, B8 NC_B8, B9 NC_B9, B10 NC_B10, B11 NC_B11, B12 NC_B12, B13 NC_B13, B14 NC_B14, C1 NC_C1, C3 NC_C3, C5 RFU3, C7 NC_C7, C8 NC_C8, C9 NC_C9, C10 NC_C10, C11 NC_C11, C12 NC_C12, C13 NC_C13, C14 NC_C14, D1 NC_D1, D2 NC_D2, D3 NC_D3, D4 NC_D4, D12 NC_D12, D13 NC_D13, D14 NC_D14, E1 NC_E1, E2 NC_E2, E3 NC_E3, E5 RFU5, E8 RFU6, E9 RFU7, E10 RFU4, E12 NC_E12, E13 NC_E13, E14 NC_E14, F1 NC_F1, F2 NC_F2, F3 NC_F3, F10 RFU8, F12 NC_F12, F13 NC_F13, F14 NC_F14, G1 NC_G1, G2 NC_G2, G3 RFU10, G10 RFU9, G12 NC_G12, G13 NC_G13, G14 NC_G14, H1 NC_H1, H2 NC_H2, H3 NC_H3, H5 RFU11, H12 NC_H12, H13 NC_H13, H14 NC_H14, J1 NC_J1, J2 NC_J2, J3 NC_J3, J5 RFU12, J12 NC_J12, J13 NC_J13, J14 NC_J14, K1 NC_K1, K2 NC_K2, K3 NC_K3, K6 RFU14, K7 RFU15, K10 RFU13, K12 NC_K12, K13 NC_K13, K14 NC_K14, L1 NC_L1, L2 NC_L2, L3 NC_L3, L12 NC_L12, L13 NC_L13, L14 NC_L14, M1 NC_M1, M2 NC_M2, M3 NC_M3, M7 NC_M7, M8 NC_M8, M9 NC_M9, M10 NC_M10, M11 NC_M11, M12 NC_M12, M13 NC_M13, M14 NC_M14, N1 NC_N1, N3 NC_N3, N6 NC_N6, N7 NC_N7, N8 NC_N8, N9 NC_N9, N10 NC_N10, N11 NC_N11, N12 NC_N12, N13 NC_N13, N14 NC_N14, P1 NC_P1, P2 NC_P2, P7 RFU17, P8 NC_P8, P9 NC_P9, P10 RFU16, P11 NC_P11, P12 NC_P12, P13 NC_P13, P14 NC_P14
part A text: eMMC

## TEMPOBJ_3
designator J?
CLASS: IO
pins: 1, 2, 3, 4, 5, 6, 7, 8, 9, 10, 11, 12, 13, 14, 15, 16, 17, 18, 19, 20

## TEST_POINT
designator TP?  (value not drawn)
CLASS: IC
pins: 1

## TestLoop
designator TP?  (value not drawn)
CLASS: IO
pins: 1 Pin1

## TitleBlock_FS
designator *  FIUO: X  PUBI: ___  Page Size: NC  Page Number: 1  (hidden comment: *)  (graphical)
FCP: ___; Page Create Date: March  8, 1995; RevCode: ?; Page Count: 1; Page Modify Date: =Date
text: ICAP Classification:; CP:; IUO:; PUBI:; Drawing Title:; Page Title:; Size; Document Number; Rev; Date:; Sheet; of

## TitleBlock_MCPG
designator *  Page Size: NC  Page Number: 1  PUBI: ____  FIUO: X  (hidden comment: *)  (graphical)
Page Create Date: March  8, 1995; RevCode: ?; Page Count: 1; FCP: ____; Page Modify Date: =Date
text: Microcontroller Product Group; 6501 William Cannon Drive West / Austin, TX 78735-8598; This document contains information proprietary to NXP and shall not be used for engineering design,; procurement or manufacture in whole or in part without the express written permission of NXP Semiconductors.; ICAP Classification:; CP:; IUO:; PUBI:; Designer:; Drawing Title:; Drawn by:; Page Title:; Approved:; Size; Document Number; Rev; Date:; Sheet; of

## TMP_23
designator J?, comment Fiber Optic Receiver
CN,GP1FAV31RK0F,Fiber Optic Receiver Square connector; Vendor: SHARP; VPN: GP1FAV31RK0F
footprint FIBER-GP1FAV31RK0F
text: VIN; VCC; GND

## TMP_24
designator J?, comment Fiber Optic Receiver
CN,GP1FAV31RK0F,Fiber Optic Receiver Square connector; Vendor: SHARP; VPN: GP1FAV31RK0F
footprint FIBER-GP1FAV31RK0F

## TMP_25
designator J?, comment Fiber Optic Receiver
CN,GP1FAV31RK0F,Fiber Optic Receiver Square connector; Vendor: SHARP; VPN: GP1FAV31RK0F
footprint FIBER-GP1FAV31RK0F

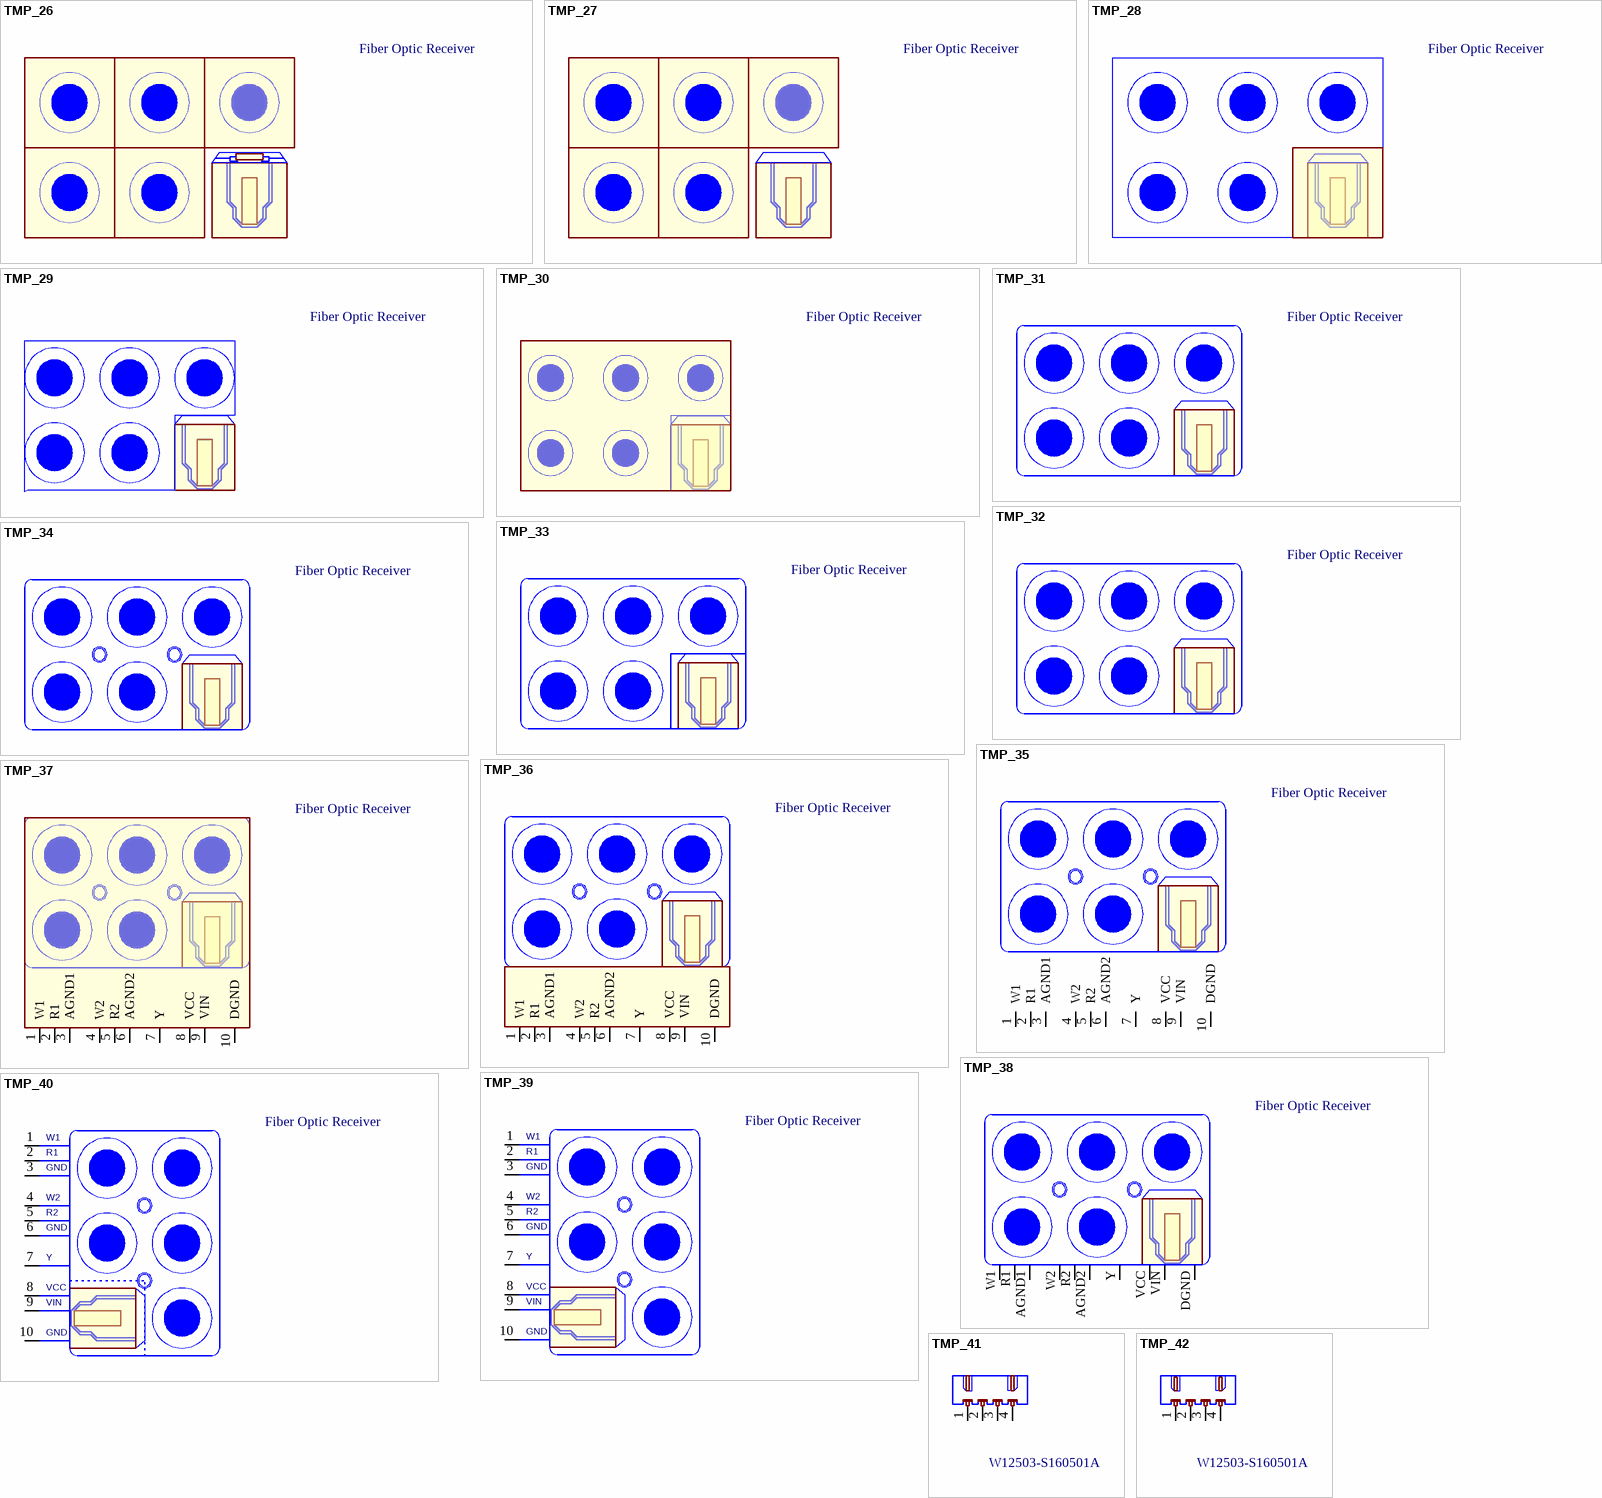
[diagram p8: symbols TMP_26 to TMP_42]

## TMP_26
designator J?, comment Fiber Optic Receiver
CN,GP1FAV31RK0F,Fiber Optic Receiver Square connector; Vendor: SHARP; VPN: GP1FAV31RK0F
footprint FIBER-GP1FAV31RK0F

## TMP_27
designator J?, comment Fiber Optic Receiver
CN,GP1FAV31RK0F,Fiber Optic Receiver Square connector; Vendor: SHARP; VPN: GP1FAV31RK0F
footprint FIBER-GP1FAV31RK0F

## TMP_28
designator J?, comment Fiber Optic Receiver
CN,GP1FAV31RK0F,Fiber Optic Receiver Square connector; Vendor: SHARP; VPN: GP1FAV31RK0F
footprint FIBER-GP1FAV31RK0F

## TMP_29
designator J?, comment Fiber Optic Receiver
CN,GP1FAV31RK0F,Fiber Optic Receiver Square connector; Vendor: SHARP; VPN: GP1FAV31RK0F
footprint FIBER-GP1FAV31RK0F

## TMP_30
designator J?, comment Fiber Optic Receiver
CN,GP1FAV31RK0F,Fiber Optic Receiver Square connector; Vendor: SHARP; VPN: GP1FAV31RK0F
footprint FIBER-GP1FAV31RK0F

## TMP_31
designator J?, comment Fiber Optic Receiver
CN,GP1FAV31RK0F,Fiber Optic Receiver Square connector; Vendor: SHARP; VPN: GP1FAV31RK0F
footprint FIBER-GP1FAV31RK0F

## TMP_32
designator J?, comment Fiber Optic Receiver
CN,GP1FAV31RK0F,Fiber Optic Receiver Square connector; Vendor: SHARP; VPN: GP1FAV31RK0F
footprint FIBER-GP1FAV31RK0F

## TMP_33
designator J?, comment Fiber Optic Receiver
CN,GP1FAV31RK0F,Fiber Optic Receiver Square connector; Vendor: SHARP; VPN: GP1FAV31RK0F
footprint FIBER-GP1FAV31RK0F

## TMP_34
designator J?, comment Fiber Optic Receiver
CN,GP1FAV31RK0F,Fiber Optic Receiver Square connector; Vendor: SHARP; VPN: GP1FAV31RK0F
footprint FIBER-GP1FAV31RK0F

## TMP_35
designator J?, comment Fiber Optic Receiver
CN,GP1FAV31RK0F,Fiber Optic Receiver Square connector; Vendor: SHARP; VPN: GP1FAV31RK0F
footprint FIBER-GP1FAV31RK0F
pins: 1 W1, 2 R1, 3 AGND1, 4 W2, 5 R2, 6 AGND2, 7 Y, 8 VCC, 9 VIN, 10 DGND

## TMP_36
designator J?, comment Fiber Optic Receiver
CN,GP1FAV31RK0F,Fiber Optic Receiver Square connector; Vendor: SHARP; VPN: GP1FAV31RK0F
footprint FIBER-GP1FAV31RK0F
pins: 1 W1, 2 R1, 3 AGND1, 4 W2, 5 R2, 6 AGND2, 7 Y, 8 VCC, 9 VIN, 10 DGND

## TMP_37
designator J?, comment Fiber Optic Receiver
CN,GP1FAV31RK0F,Fiber Optic Receiver Square connector; Vendor: SHARP; VPN: GP1FAV31RK0F
footprint FIBER-GP1FAV31RK0F
pins: 1 W1, 2 R1, 3 AGND1, 4 W2, 5 R2, 6 AGND2, 7 Y, 8 VCC, 9 VIN, 10 DGND

## TMP_38
designator J?, comment Fiber Optic Receiver
CN,GP1FAV31RK0F,Fiber Optic Receiver Square connector; Vendor: SHARP; VPN: GP1FAV31RK0F
footprint FIBER-GP1FAV31RK0F
pins: AGND1, AGND2, DGND, R1, R2, VCC, VIN, W1, W2, Y

## TMP_39
designator J?, comment Fiber Optic Receiver
CN,GP1FAV31RK0F,Fiber Optic Receiver Square connector; Vendor: SHARP; VPN: GP1FAV31RK0F
footprint FIBER-GP1FAV31RK0F
pins: 1 W1, 2 R1, 3 AGND1, 4 W2, 5 R2, 6 AGND2, 7 Y, 8 VCC, 9 VIN, 10 DGND
text: GND

## TMP_40
designator J?, comment Fiber Optic Receiver
CN,GP1FAV31RK0F,Fiber Optic Receiver Square connector; Vendor: SHARP; VPN: GP1FAV31RK0F
footprint FIBER-GP1FAV31RK0F
pins: 1 W1, 2 R1, 3 AGND1, 4 W2, 5 R2, 6 AGND2, 7 Y, 8 VCC, 9 VIN, 10 DGND
text: GND

## TMP_41
designator J?, comment W12503-S160501A
CN,W12503-S160501A,1.25mm/3 PIN; Vendor: ATOM; VPN: W12503-S160501A
footprint W12503-S160501A
pins: 1, 2, 3, 4

## TMP_42
designator J?, comment W12503-S160501A
CN,W12503-S160501A,1.25mm/3 PIN; Vendor: ATOM; VPN: W12503-S160501A
footprint W12503-S160501A
pins: 1, 2, 3, 4

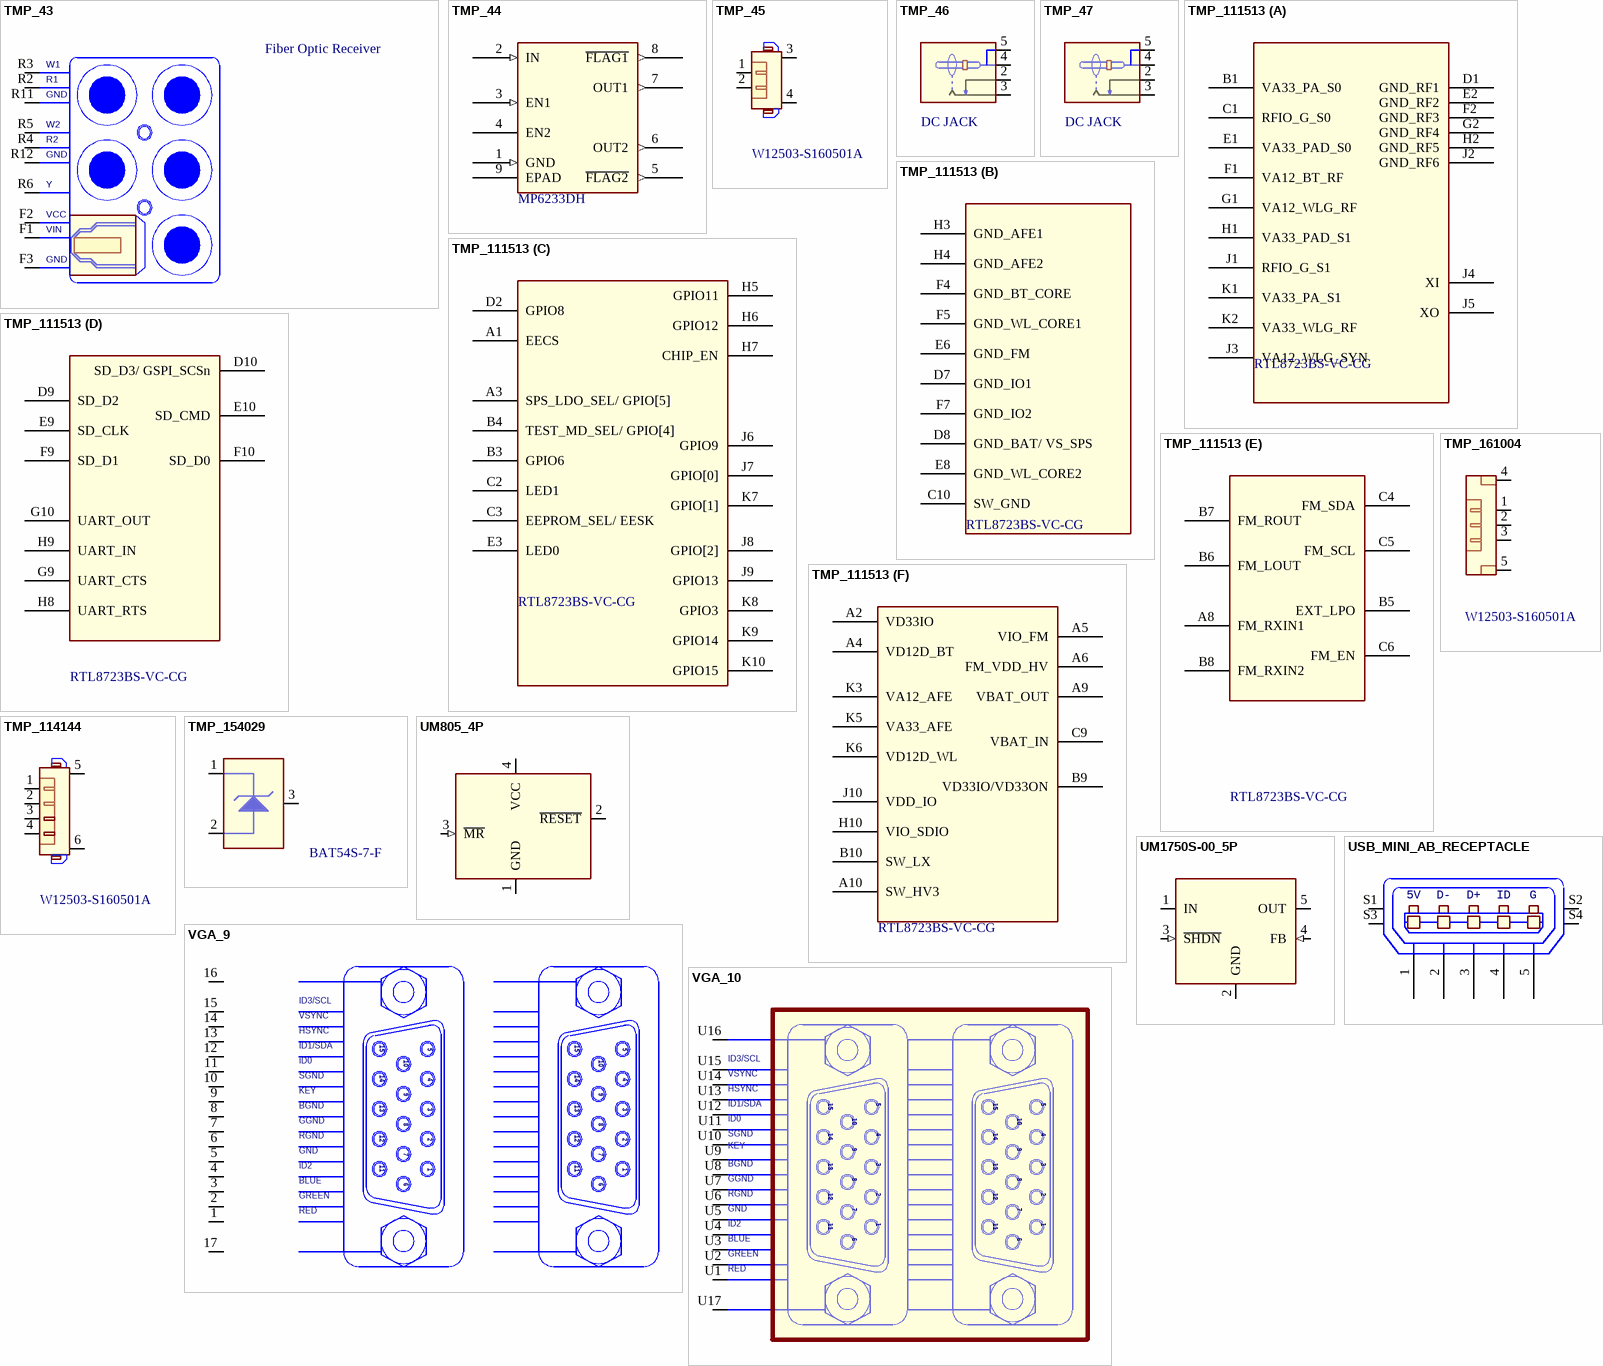
[diagram p9: symbols TMP_43 to VGA_10]

## TMP_43
designator J?, comment Fiber Optic Receiver
CN,GP1FAV31RK0F,Fiber Optic Receiver Square connector; Vendor: SHARP; VPN: GP1FAV31RK0F
footprint FIBER-GP1FAV31RK0F
pins: F1 VIN, F2 VCC, F3 DGND, R2 R1, R3 W1, R4 R2, R5 W2, R6 Y, R11 AGND1, R12 AGND2
text: GND

## TMP_44
designator U?, comment MP6233DH
IC,MP6233DH,MSO8E,1.5A CurrLimited Power Distribution Switch,Active 'H'; Vendor: MPS; VPN: MP6233DH
footprint msop8e
pins: 1 GND (in), 2 IN (in), 3 EN1 (in), 4 EN2 (power), 5 ~{FLAG2} (out), 6 OUT2 (out), 7 OUT1 (out), 8 ~{FLAG1} (out), 9 EPAD

## TMP_45
designator J?, comment W12503-S160501A
CN,W12503-S160501A,1.25mm/3 PIN; Vendor: ATOM; VPN: W12503-S160501A
footprint W12503-S160501A
pins: 1, 2, 3, 4

## TMP_46
designator J?, comment DC JACK
CN,ATOM010060020079,DC PWR JACK; Vendor: ATOM; CLASS: IO; VPN: ATOM010060020079
footprint ATOM010060020079
pins: 2, 3, 4, 5

## TMP_47
designator J?, comment DC JACK
CN,ATOM010060020079,DC PWR JACK; Vendor: ATOM; CLASS: IO; VPN: ATOM010060020079
footprint ATOM010060020079
pins: 2, 3, 4, 5

## TMP_111513
designator U?, comment RTL8723BS-VC-CG
IC,RTL8723BS-VC-CG,TFBGA79,802.11b/g/n 1T1R WLAN,BLUETOOTH2.1/3.0/4.0,FM; Vendor: Realtek; VPN: RTL8723BS-VC-CG
footprint tfbga79_5p1x5p1mm
part A pins: B1 VA33_PA_S0, C1 RFIO_G_S0, D1 GND_RF1, E1 VA33_PAD_S0, E2 GND_RF2, F1 VA12_BT_RF, F2 GND_RF3, G1 VA12_WLG_RF, G2 GND_RF4, H1 VA33_PAD_S1, H2 GND_RF5, J1 RFIO_G_S1, J2 GND_RF6, J3 VA12_WLG_SYN, J4 XI, J5 XO, K1 VA33_PA_S1, K2 VA33_WLG_RF
part B pins: C10 SW_GND, D7 GND_IO1, D8 GND_BAT/ VS_SPS, E6 GND_FM, E8 GND_WL_CORE2, F4 GND_BT_CORE, F5 GND_WL_CORE1, F7 GND_IO2, H3 GND_AFE1, H4 GND_AFE2
part C pins: A1 EECS, A3 SPS_LDO_SEL/ GPIO[5], B3 GPIO6, B4 TEST_MD_SEL/ GPIO[4], C2 LED1, C3 EEPROM_SEL/ EESK, D2 GPIO8, E3 LED0, H5 GPIO11, H6 GPIO12, H7 CHIP_EN, J6 GPIO9, J7 GPIO[0], J8 GPIO[2], J9 GPIO13, K7 GPIO[1], K8 GPIO3, K9 GPIO14, K10 GPIO15
part D pins: D9 SD_D2, D10 SD_D3/ GSPI_SCSn, E9 SD_CLK, E10 SD_CMD, F9 SD_D1, F10 SD_D0, G9 UART_CTS, G10 UART_OUT, H8 UART_RTS, H9 UART_IN
part E pins: A8 FM_RXIN1, B5 EXT_LPO, B6 FM_LOUT, B7 FM_ROUT, B8 FM_RXIN2, C4 FM_SDA, C5 FM_SCL, C6 FM_EN
part F pins: A2 VD33IO, A4 VD12D_BT, A5 VIO_FM, A6 FM_VDD_HV, A9 VBAT_OUT, A10 SW_HV3, B9 VD33IO/VD33ON, B10 SW_LX, C9 VBAT_IN, H10 VIO_SDIO, J10 VDD_IO, K3 VA12_AFE, K5 VA33_AFE, K6 VD12D_WL

## TMP_114144
designator J?, comment W12503-S160501A
CN,W12503-S160501A,1.25mm/3 PIN; Vendor: ATOM; VPN: W12503-S160501A
footprint W12503-S160501A
pins: 1, 2, 3, 4, 5, 6

## TMP_154029
designator D?, comment BAT54S-7-F
DIOD,SCH,BAT54S,SOT23,30V,.2A ,Dual Diodes; VPN: BAT54S-7-F; Vendor: Diodes
footprint SOT23
pins: 1 ANODE1, 2 CATHODE2, 3 CATHODE1ANODE2

## TMP_161004
designator J?, comment W12503-S160501A
CN,W12503-S160501A,1.25mm/3 PIN; Vendor: ATOM; VPN: W12503-S160501A
footprint W12503-S160501A
pins: 1, 2, 3, 4, 5

## UM805_4P
designator U?
CLASS: IC
pins: 1 GND (power), 2 ~{RESET} (oc), 3 ~{MR} (in), 4 VCC (power)

## UM1750S-00_5P
designator U?
CLASS: IC
pins: 1 IN (power), 2 GND (power), 3 ~{SHDN} (in), 4 FB (in), 5 OUT (power)

## USB_MINI_AB_RECEPTACLE
designator J?
CLASS: IO
pins: 1 P1, 2 P2, 3 P3, 4 P4, 5 P5, S1 SHLD1, S2 SHLD2, S3 SHLD3, S4 SHLD4
text: 5V; D-; D+; ID; G

## VGA_9
designator J?
footprint VGA
pins: 1 RED, 2 GREEN, 3 BLUE, 4 ID2, 5 GND, 6 RGND, 7 GGND, 8 BGND, 9 KEY, 10 SGND, 11 ID0, 12 ID1/SDA, 13 HSYNC, 14 VSYNC, 15 ID3/SCL, 16 M1, 17 M2

## VGA_10
designator J?
footprint VGA
pins: U1 RED, U2 GREEN, U3 BLUE, U4 ID2, U5 GND, U6 RGND, U7 GGND, U8 BGND, U9 KEY, U10 SGND, U11 ID0, U12 ID1/SDA, U13 HSYNC, U14 VSYNC, U15 ID3/SCL, U16 M1, U17 M2
text: 15; 5; 10; 14; 4; 9; 13; 3; 8; 12; 2; 7; 11; 1; 6

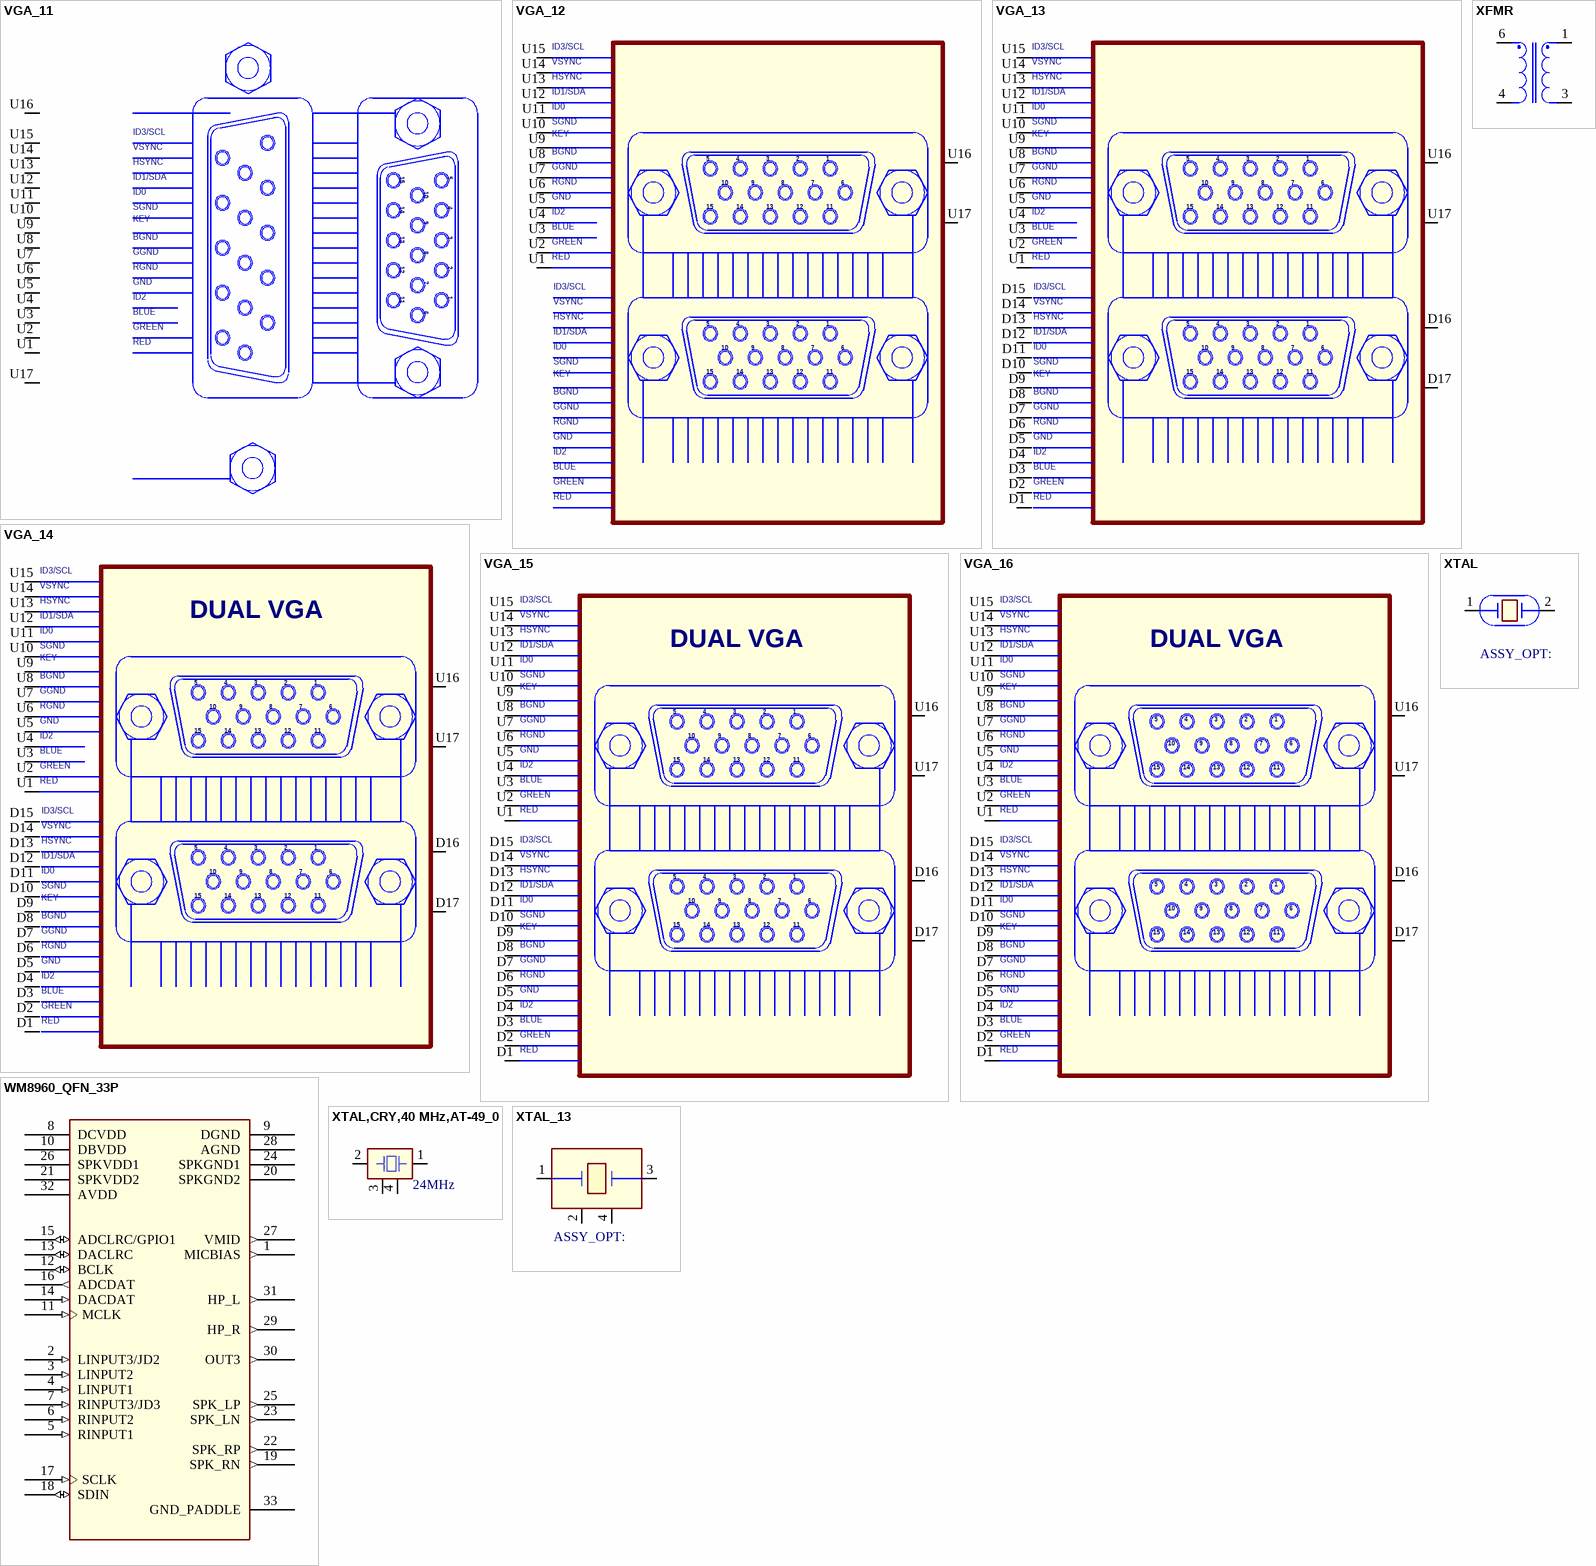
[diagram p10: symbols VGA_11 to XTAL_13]

## VGA_11
designator J?
footprint VGA
pins: U1 RED, U2 GREEN, U3 BLUE, U4 ID2, U5 GND, U6 RGND, U7 GGND, U8 BGND, U9 KEY, U10 SGND, U11 ID0, U12 ID1/SDA, U13 HSYNC, U14 VSYNC, U15 ID3/SCL, U16 M1, U17 M2
text: 15; 5; 10; 14; 4; 9; 13; 3; 8; 12; 2; 7; 11; 1; 6

## VGA_12
designator J?
footprint VGA
pins: U1 RED, U2 GREEN, U3 BLUE, U4 ID2, U5 GND, U6 RGND, U7 GGND, U8 BGND, U9 KEY, U10 SGND, U11 ID0, U12 ID1/SDA, U13 HSYNC, U14 VSYNC, U15 ID3/SCL, U16 M1, U17 M2
text: 5; 4; 3; 2; 1; 10; 9; 8; 7; 6; 15; 14; 13; 12; 11

## VGA_13
designator J?
footprint VGA
pins: D1 RED_D, D2 GREEN_D, D3 BLUE_D, D4 ID2_D, D5 GND_D, D6 RGND_D, D7 GGND_D, D8 BGND_D, D9 KEY_D, D10 SGND_D, D11 ID0_~{D}, D12 ID1/SDA_D, D13 HSYNC_D, D14 VSYNC_D, D15 ID3/SCL_D, D16 M1_D, D17 M2_D, U1 RED_U, U2 GREEN_U, U3 BLUE_U, U4 ID2_U, U5 GND_U, U6 RGND_U, U7 GGND_U, U8 BGND_U, U9 KEY_U, U10 SGND_U, U11 ID0_U, U12 ID1/SDA_U, U13 HSYNC_U, U14 VSYNC_U, U15 ID3/SCL_U, U16 M1_U, U17 M2_U
text: ID3/SCL; VSYNC; HSYNC; ID1/SDA; ID0; SGND; KEY; BGND; 5; 4; 3; 2; 1; GGND; RGND; 10; 9; 8; 7; 6; GND; ID2; 15; 14; 13; 12; 11; BLUE; GREEN; RED

## VGA_14
designator J?
footprint VGA
pins: D1 RED_D, D2 GREEN_D, D3 BLUE_D, D4 ID2_D, D5 GND_D, D6 RGND_D, D7 GGND_D, D8 BGND_D, D9 KEY_D, D10 SGND_D, D11 ID0_~{D}, D12 ID1/SDA_D, D13 HSYNC_D, D14 VSYNC_D, D15 ID3/SCL_D, D16 M1_D, D17 M2_D, U1 RED_U, U2 GREEN_U, U3 BLUE_U, U4 ID2_U, U5 GND_U, U6 RGND_U, U7 GGND_U, U8 BGND_U, U9 KEY_U, U10 SGND_U, U11 ID0_U, U12 ID1/SDA_U, U13 HSYNC_U, U14 VSYNC_U, U15 ID3/SCL_U, U16 M1_U, U17 M2_U
text: ID3/SCL; VSYNC; HSYNC; ID1/SDA; DUAL VGA; ID0; SGND; KEY; BGND; 5; 4; 3; 2; 1; GGND; RGND; 10; 9; 8; 7; 6; GND; ID2; 15; 14; 13; 12; 11; BLUE; GREEN; RED

## VGA_15
designator J?
footprint VGA
pins: D1 RED_D, D2 GREEN_D, D3 BLUE_D, D4 ID2_D, D5 GND_D, D6 RGND_D, D7 GGND_D, D8 BGND_D, D9 KEY_D, D10 SGND_D, D11 ID0_~{D}, D12 ID1/SDA_D, D13 HSYNC_D, D14 VSYNC_D, D15 ID3/SCL_D, D16 M1_D, D17 M2_D, U1 RED_U, U2 GREEN_U, U3 BLUE_U, U4 ID2_U, U5 GND_U, U6 RGND_U, U7 GGND_U, U8 BGND_U, U9 KEY_U, U10 SGND_U, U11 ID0_U, U12 ID1/SDA_U, U13 HSYNC_U, U14 VSYNC_U, U15 ID3/SCL_U, U16 M1_U, U17 M2_U
text: ID3/SCL; VSYNC; HSYNC; ID1/SDA; DUAL VGA; ID0; SGND; KEY; BGND; 5; 4; 3; 2; 1; GGND; RGND; 10; 9; 8; 7; 6; GND; ID2; 15; 14; 13; 12; 11; BLUE; GREEN; RED

## VGA_16
designator J?
footprint VGA
pins: D1 RED_D, D2 GREEN_D, D3 BLUE_D, D4 ID2_D, D5 GND_D, D6 RGND_D, D7 GGND_D, D8 BGND_D, D9 KEY_D, D10 SGND_D, D11 ID0_~{D}, D12 ID1/SDA_D, D13 HSYNC_D, D14 VSYNC_D, D15 ID3/SCL_D, D16 M1_D, D17 M2_D, U1 RED_U, U2 GREEN_U, U3 BLUE_U, U4 ID2_U, U5 GND_U, U6 RGND_U, U7 GGND_U, U8 BGND_U, U9 KEY_U, U10 SGND_U, U11 ID0_U, U12 ID1/SDA_U, U13 HSYNC_U, U14 VSYNC_U, U15 ID3/SCL_U, U16 M1_U, U17 M2_U
text: ID3/SCL; VSYNC; HSYNC; ID1/SDA; DUAL VGA; ID0; SGND; KEY; BGND; GGND; 5; 4; 3; 2; 1; RGND; 10; 9; 8; 7; 6; GND; ID2; 15; 14; 13; 12; 11; BLUE; GREEN; RED

## WM8960_QFN_33P
designator U?
CLASS: IC
pins: 1 MICBIAS (out), 2 LINPUT3/JD2 (in), 3 LINPUT2 (in), 4 LINPUT1 (in), 5 RINPUT1 (in), 6 RINPUT2 (in), 7 RINPUT3/JD3 (in), 8 DCVDD (power), 9 DGND (power), 10 DBVDD (power), 11 MCLK (in), 12 BCLK (io), 13 DACLRC (io), 14 DACDAT (in), 15 ADCLRC/GPIO1 (io), 16 ADCDAT (out), 17 SCLK (in), 18 SDIN (io), 19 SPK_RN (out), 20 SPKGND2 (power), 21 SPKVDD2 (power), 22 SPK_RP (out), 23 SPK_LN (out), 24 SPKGND1 (power), 25 SPK_LP (out), 26 SPKVDD1 (power), 27 VMID (out), 28 AGND (power), 29 HP_R (out), 30 OUT3 (out), 31 HP_L (out), 32 AVDD (power), 33 GND_PADDLE (power)

## XFMR
designator T?
pins: 1, 3, 4, 6

## XTAL
designator Y?
CLASS: IC
pins: 1, 2

## XTAL,CRY,40 MHz,AT-49_0
designator X?, comment 24MHz
XTAL,AT-49,24MHz,Crystal; VPN: AT-49-24MHz; Vendor: KDS; CLASS: IC
footprint AT-49
pins: 1, 2, 3, 4

## XTAL_13
designator Y?
CLASS: IC
pins: 1, 2, 3, 4